# Altium integrated library Actel IGLOOe.IntLib: 72 symbols (part 3 of 24)
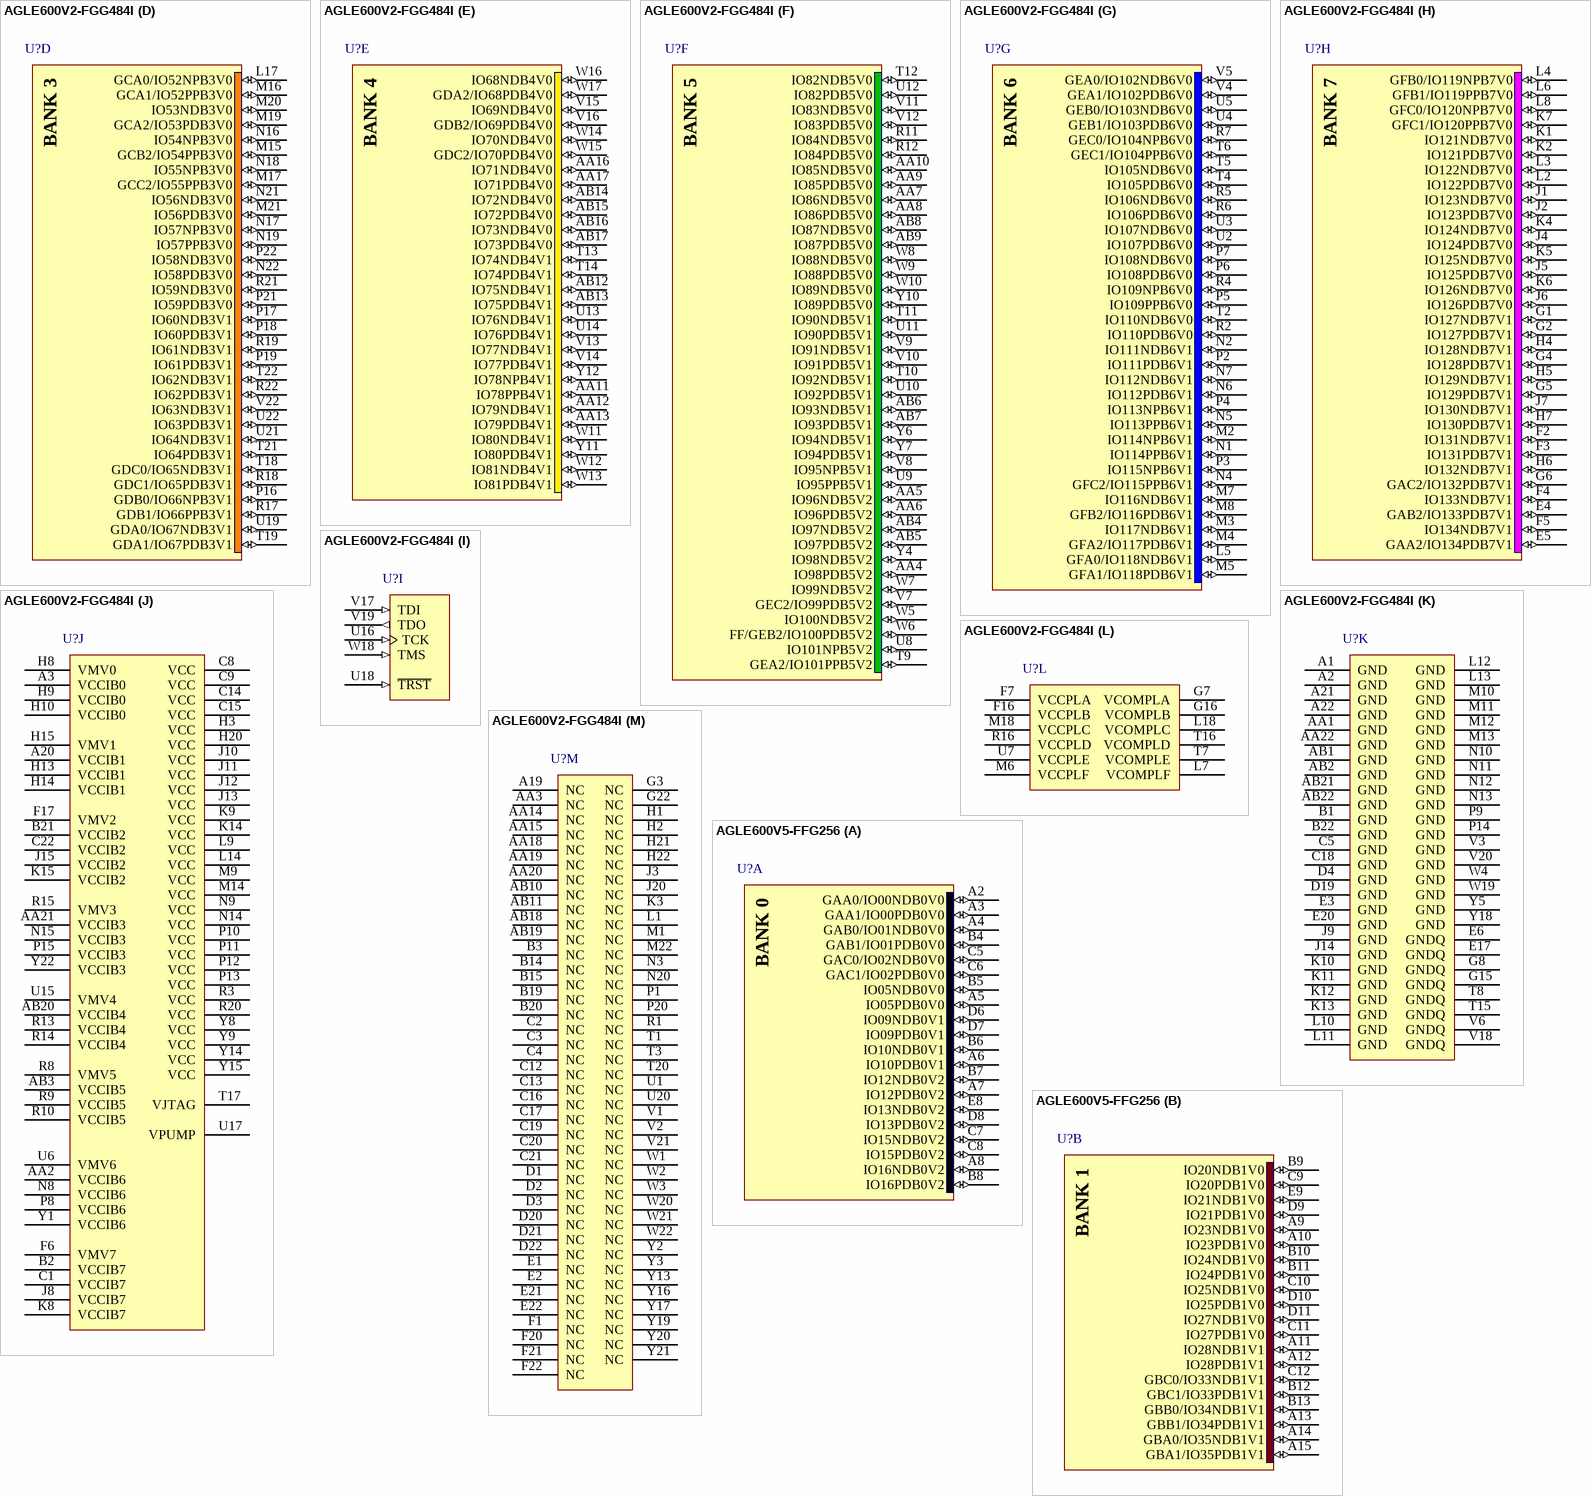
[diagram p109: symbols AGLE600V2-FGG484I to AGLE600V5-FFG256]

## AGLE600V2-FGG484I
designator U?
IGLOOe 1.2/1.5V Flash FPGA with Flash*Freeze, 270 User IOs, 600K System Gates, 108Kbits RAM, 1Kbit Flash ROM, 484-Pin FBGA, Industrial Grade; DatasheetVersion: v2.0, Nov-2009; PackageVersion: rev39, Aug-2010; PackageReference: FG484; PackageDescription: 484-Ball Fine Pitch Plastic Ball Grid Array (FG484) - Fully Populated; Code_JEDEC: MS-034-AAJ-1; Code_IPC: BGA100P22X22-484; ComponentLink1Description: Manufacturer URL; ComponentLink1URL: http://www.actel.com/; ComponentLink2Description: IGLOOe Datasheet; ComponentLink2URL: http://www.actel.com/documents/IGLOOe_DS.pdf; ComponentLink3Description: Package Mechanical Drawings; ComponentLink3URL: http://www.actel.com/documents/PckgMechDrwngs.pdf; ComponentLink4Description: IGLOOe Documents; ComponentLink4URL: http://www.actel.com/products/igloo/docs.aspx
footprint FG484 (BGA, 484-Leads, Body 23x23mm, Pitch 1mm)
part A pins: A4 IO06NDB0V1 (io), A5 IO06PDB0V1 (io), A6 IO08NDB0V1 (io), A7 IO08PDB0V1 (io), A8 IO11PDB0V1 (io), A9 IO17PDB0V2 (io), A10 IO18NDB0V2 (io), A11 IO18PDB0V2 (io), B4 IO03NDB0V0 (io), B5 IO03PDB0V0 (io), B6 IO07NDB0V1 (io), B7 IO07PDB0V1 (io), B8 IO11NDB0V1 (io), B9 IO17NDB0V2 (io), B10 IO14PDB0V2 (io), B11 IO19PDB0V2 (io), C6 IO04NDB0V0 (io), C7 IO04PDB0V0 (io), C10 IO14NDB0V2 (io), C11 IO19NDB0V2 (io), D5 GAA0/IO00NDB0V0 (io), D6 GAA1/IO00PDB0V0 (io), D7 GAB0/IO01NDB0V0 (io), D8 IO05PDB0V0 (io), D9 IO10PDB0V1 (io), D10 IO12PDB0V2 (io), D11 IO16NDB0V2 (io), E7 GAB1/IO01PDB0V0 (io), E8 IO05NDB0V0 (io), E9 IO10NDB0V1 (io), E10 IO12NDB0V2 (io), E11 IO16PDB0V2 (io), F8 GAC0/IO02NDB0V0 (io), F9 GAC1/IO02PDB0V0 (io), F10 IO15NDB0V2 (io), F11 IO15PDB0V2 (io), G9 IO09NDB0V1 (io), G10 IO09PDB0V1 (io), G11 IO13PDB0V2 (io), H11 IO13NDB0V2 (io)
part B pins: A12 IO22PDB1V0 (io), A13 IO26PDB1V0 (io), A14 IO29NDB1V1 (io), A15 IO29PDB1V1 (io), A16 IO31NDB1V1 (io), A17 IO31PDB1V1 (io), A18 IO32NDB1V1 (io), B12 IO22NDB1V0 (io), B13 IO26NDB1V0 (io), B16 IO30NDB1V1 (io), B17 IO30PDB1V1 (io), B18 IO32PDB1V1 (io), D12 IO23NDB1V0 (io), D13 IO23PDB1V0 (io), D14 IO28NDB1V1 (io), D15 IO28PDB1V1 (io), D16 GBB1/IO34PDB1V1 (io), D17 GBA0/IO35NDB1V1 (io), D18 GBA1/IO35PDB1V1 (io), E12 IO20NDB1V0 (io), E13 IO24NDB1V0 (io), E14 IO24PDB1V0 (io), E15 GBC1/IO33PDB1V1 (io), E16 GBB0/IO34NDB1V1 (io), F12 IO20PDB1V0 (io), F13 IO25NDB1V0 (io), F14 IO27PDB1V0 (io), F15 GBC0/IO33NDB1V1 (io), G12 IO21PDB1V0 (io), G13 IO25PDB1V0 (io), G14 IO27NDB1V0 (io), H12 IO21NDB1V0 (io)
part C pins: E18 GBA2/IO36PDB2V0 (io), E19 IO42NDB2V0 (io), F18 IO36NDB2V0 (io), F19 IO42PDB2V0 (io), G17 GBB2/IO37PDB2V0 (io), G18 IO39PDB2V0 (io), G19 IO39NDB2V0 (io), G20 IO43PDB2V0 (io), G21 IO43NDB2V0 (io), H16 GBC2/IO38PDB2V0 (io), H17 IO37NDB2V0 (io), H18 IO41NDB2V0 (io), H19 IO41PDB2V0 (io), J16 IO38NDB2V0 (io), J17 IO40NDB2V0 (io), J18 IO40PDB2V0 (io), J19 IO45PPB2V1 (io), J21 IO48PDB2V1 (io), J22 IO46PDB2V1 (io), K16 GCC1/IO50PPB2V1 (io), K17 IO44NDB2V1 (io), K18 IO44PDB2V1 (io), K19 IO49NPB2V1 (io), K20 IO45NPB2V1 (io), K21 IO48NDB2V1 (io), K22 IO46NDB2V1 (io), L15 GCC0/IO50NPB2V1 (io), L16 GCB1/IO51PPB2V1 (io), L19 GCB0/IO51NPB2V1 (io), L20 IO49PPB2V1 (io), L21 IO47NDB2V1 (io), L22 IO47PDB2V1 (io)
part D pins: L17 GCA0/IO52NPB3V0 (io), M15 GCB2/IO54PPB3V0 (io), M16 GCA1/IO52PPB3V0 (io), M17 GCC2/IO55PPB3V0 (io), M19 GCA2/IO53PDB3V0 (io), M20 IO53NDB3V0 (io), M21 IO56PDB3V0 (io), N16 IO54NPB3V0 (io), N17 IO57NPB3V0 (io), N18 IO55NPB3V0 (io), N19 IO57PPB3V0 (io), N21 IO56NDB3V0 (io), N22 IO58PDB3V0 (io), P16 GDB0/IO66NPB3V1 (io), P17 IO60NDB3V1 (io), P18 IO60PDB3V1 (io), P19 IO61PDB3V1 (io), P21 IO59PDB3V0 (io), P22 IO58NDB3V0 (io), R17 GDB1/IO66PPB3V1 (io), R18 GDC1/IO65PDB3V1 (io), R19 IO61NDB3V1 (io), R21 IO59NDB3V0 (io), R22 IO62PDB3V1 (io), T18 GDC0/IO65NDB3V1 (io), T19 GDA1/IO67PDB3V1 (io), T21 IO64PDB3V1 (io), T22 IO62NDB3V1 (io), U19 GDA0/IO67NDB3V1 (io), U21 IO64NDB3V1 (io), U22 IO63PDB3V1 (io), V22 IO63NDB3V1 (io)
part E pins: AA11 IO78PPB4V1 (io), AA12 IO79NDB4V1 (io), AA13 IO79PDB4V1 (io), AA16 IO71NDB4V0 (io), AA17 IO71PDB4V0 (io), AB12 IO75NDB4V1 (io), AB13 IO75PDB4V1 (io), AB14 IO72NDB4V0 (io), AB15 IO72PDB4V0 (io), AB16 IO73NDB4V0 (io), AB17 IO73PDB4V0 (io), T13 IO74NDB4V1 (io), T14 IO74PDB4V1 (io), U13 IO76NDB4V1 (io), U14 IO76PDB4V1 (io), V13 IO77NDB4V1 (io), V14 IO77PDB4V1 (io), V15 IO69NDB4V0 (io), V16 GDB2/IO69PDB4V0 (io), W11 IO80NDB4V1 (io), W12 IO81NDB4V1 (io), W13 IO81PDB4V1 (io), W14 IO70NDB4V0 (io), W15 GDC2/IO70PDB4V0 (io), W16 IO68NDB4V0 (io), W17 GDA2/IO68PDB4V0 (io), Y11 IO80PDB4V1 (io), Y12 IO78NPB4V1 (io)
part F pins: AA4 IO98PDB5V2 (io), AA5 IO96NDB5V2 (io), AA6 IO96PDB5V2 (io), AA7 IO86NDB5V0 (io), AA8 IO86PDB5V0 (io), AA9 IO85PDB5V0 (io), AA10 IO85NDB5V0 (io), AB4 IO97NDB5V2 (io), AB5 IO97PDB5V2 (io), AB6 IO93NDB5V1 (io), AB7 IO93PDB5V1 (io), AB8 IO87NDB5V0 (io), AB9 IO87PDB5V0 (io), R11 IO84NDB5V0 (io), R12 IO84PDB5V0 (io), T9 GEA2/IO101PPB5V2 (io), T10 IO92NDB5V1 (io), T11 IO90NDB5V1 (io), T12 IO82NDB5V0 (io), U8 IO101NPB5V2 (io), U9 IO95PPB5V1 (io), U10 IO92PDB5V1 (io), U11 IO90PDB5V1 (io), U12 IO82PDB5V0 (io), V7 GEC2/IO99PDB5V2 (io), V8 IO95NPB5V1 (io), V9 IO91NDB5V1 (io), V10 IO91PDB5V1 (io), V11 IO83NDB5V0 (io), V12 IO83PDB5V0 (io), W5 IO100NDB5V2 (io), W6 FF/GEB2/IO100PDB5V2 (io), W7 IO99NDB5V2 (io), W8 IO88NDB5V0 (io), W9 IO88PDB5V0 (io), W10 IO89NDB5V0 (io), Y4 IO98NDB5V2 (io), Y6 IO94NDB5V1 (io), Y7 IO94PDB5V1 (io), Y10 IO89PDB5V0 (io)
part G pins: L5 GFA0/IO118NDB6V1 (io), M2 IO114NPB6V1 (io), M3 IO117NDB6V1 (io), M4 GFA2/IO117PDB6V1 (io), M5 GFA1/IO118PDB6V1 (io), M7 IO116NDB6V1 (io), M8 GFB2/IO116PDB6V1 (io), N1 IO114PPB6V1 (io), N2 IO111NDB6V1 (io), N4 GFC2/IO115PPB6V1 (io), N5 IO113PPB6V1 (io), N6 IO112PDB6V1 (io), N7 IO112NDB6V1 (io), P2 IO111PDB6V1 (io), P3 IO115NPB6V1 (io), P4 IO113NPB6V1 (io), P5 IO109PPB6V0 (io), P6 IO108PDB6V0 (io), P7 IO108NDB6V0 (io), R2 IO110PDB6V0 (io), R4 IO109NPB6V0 (io), R5 IO106NDB6V0 (io), R6 IO106PDB6V0 (io), R7 GEC0/IO104NPB6V0 (io), T2 IO110NDB6V0 (io), T4 IO105PDB6V0 (io), T5 IO105NDB6V0 (io), T6 GEC1/IO104PPB6V0 (io), U2 IO107PDB6V0 (io), U3 IO107NDB6V0 (io), U4 GEB1/IO103PDB6V0 (io), U5 GEB0/IO103NDB6V0 (io), V4 GEA1/IO102PDB6V0 (io), V5 GEA0/IO102NDB6V0 (io)
part H pins: E4 GAB2/IO133PDB7V1 (io), E5 GAA2/IO134PDB7V1 (io), F2 IO131NDB7V1 (io), F3 IO131PDB7V1 (io), F4 IO133NDB7V1 (io), F5 IO134NDB7V1 (io), G1 IO127NDB7V1 (io), G2 IO127PDB7V1 (io), G4 IO128PDB7V1 (io), G5 IO129PDB7V1 (io), G6 GAC2/IO132PDB7V1 (io), H4 IO128NDB7V1 (io), H5 IO129NDB7V1 (io), H6 IO132NDB7V1 (io), H7 IO130PDB7V1 (io), J1 IO123NDB7V0 (io), J2 IO123PDB7V0 (io), J4 IO124PDB7V0 (io), J5 IO125PDB7V0 (io), J6 IO126PDB7V0 (io), J7 IO130NDB7V1 (io), K1 IO121NDB7V0 (io), K2 IO121PDB7V0 (io), K4 IO124NDB7V0 (io), K5 IO125NDB7V0 (io), K6 IO126NDB7V0 (io), K7 GFC1/IO120PPB7V0 (io), L2 IO122PDB7V0 (io), L3 IO122NDB7V0 (io), L4 GFB0/IO119NPB7V0 (io), L6 GFB1/IO119PPB7V0 (io), L8 GFC0/IO120NPB7V0 (io)
part I pins: U16 TCK (in), U18 ~{TRST} (in), V17 TDI (in), V19 TDO (out), W18 TMS (in)
part J pins: A3 VCCIB0 (power), A20 VCCIB1 (power), AA2 VCCIB6 (power), AA21 VCCIB3 (power), AB3 VCCIB5 (power), AB20 VCCIB4 (power), B2 VCCIB7 (power), B21 VCCIB2 (power), C1 VCCIB7 (power), C8 VCC (power), C9 VCC (power), C14 VCC (power), C15 VCC (power), C22 VCCIB2 (power), F6 VMV7 (power), F17 VMV2 (power), H3 VCC (power), H8 VMV0 (power), H9 VCCIB0 (power), H10 VCCIB0 (power), H13 VCCIB1 (power), H14 VCCIB1 (power), H15 VMV1 (power), H20 VCC (power), J8 VCCIB7 (power), J10 VCC (power), J11 VCC (power), J12 VCC (power), J13 VCC (power), J15 VCCIB2 (power), K8 VCCIB7 (power), K9 VCC (power), K14 VCC (power), K15 VCCIB2 (power), L9 VCC (power), L14 VCC (power), M9 VCC (power), M14 VCC (power), N8 VCCIB6 (power), N9 VCC (power), N14 VCC (power), N15 VCCIB3 (power), P8 VCCIB6 (power), P10 VCC (power), P11 VCC (power), P12 VCC (power), P13 VCC (power), P15 VCCIB3 (power), R3 VCC (power), R8 VMV5 (power), R9 VCCIB5 (power), R10 VCCIB5 (power), R13 VCCIB4 (power), R14 VCCIB4 (power), R15 VMV3 (power), R20 VCC (power), T17 VJTAG (power), U6 VMV6 (power), U15 VMV4 (power), U17 VPUMP (power), Y1 VCCIB6 (power), Y8 VCC (power), Y9 VCC (power), Y14 VCC (power), Y15 VCC (power), Y22 VCCIB3 (power)
part K pins: A1 GND (power), A2 GND (power), A21 GND (power), A22 GND (power), AA1 GND (power), AA22 GND (power), AB1 GND (power), AB2 GND (power), AB21 GND (power), AB22 GND (power), B1 GND (power), B22 GND (power), C5 GND (power), C18 GND (power), D4 GND (power), D19 GND (power), E3 GND (power), E6 GNDQ (power), E17 GNDQ (power), E20 GND (power), G8 GNDQ (power), G15 GNDQ (power), J9 GND (power), J14 GND (power), K10 GND (power), K11 GND (power), K12 GND (power), K13 GND (power), L10 GND (power), L11 GND (power), L12 GND (power), L13 GND (power), M10 GND (power), M11 GND (power), M12 GND (power), M13 GND (power), N10 GND (power), N11 GND (power), N12 GND (power), N13 GND (power), P9 GND (power), P14 GND (power), T8 GNDQ (power), T15 GNDQ (power), V3 GND (power), V6 GNDQ (power), V18 GNDQ (power), V20 GND (power), W4 GND (power), W19 GND (power), Y5 GND (power), Y18 GND (power)
part L pins: F7 VCCPLA (power), F16 VCCPLB (power), G7 VCOMPLA (power), G16 VCOMPLB (power), L7 VCOMPLF (power), L18 VCOMPLC (power), M6 VCCPLF (power), M18 VCCPLC (power), R16 VCCPLD (power), T7 VCOMPLE (power), T16 VCOMPLD (power), U7 VCCPLE (power)
part M pins: A19 NC, AA3 NC, AA14 NC, AA15 NC, AA18 NC, AA19 NC, AA20 NC, AB10 NC, AB11 NC, AB18 NC, AB19 NC, B3 NC, B14 NC, B15 NC, B19 NC, B20 NC, C2 NC, C3 NC, C4 NC, C12 NC, C13 NC, C16 NC, C17 NC, C19 NC, C20 NC, C21 NC, D1 NC, D2 NC, D3 NC, D20 NC, D21 NC, D22 NC, E1 NC, E2 NC, E21 NC, E22 NC, F1 NC, F20 NC, F21 NC, F22 NC, G3 NC, G22 NC, H1 NC, H2 NC, H21 NC, H22 NC, J3 NC, J20 NC, K3 NC, L1 NC, M1 NC, M22 NC, N3 NC, N20 NC, P1 NC, P20 NC, R1 NC, T1 NC, T3 NC, T20 NC, U1 NC, U20 NC, V1 NC, V2 NC, V21 NC, W1 NC, W2 NC, W3 NC, W20 NC, W21 NC, W22 NC, Y2 NC, Y3 NC, Y13 NC, Y16 NC, Y17 NC, Y19 NC, Y20 NC, Y21 NC
part A text: BANK 0
part B text: BANK 1
part C text: BANK 2
part D text: BANK 3
part E text: BANK 4
part F text: BANK 5
part G text: BANK 6
part H text: BANK 7

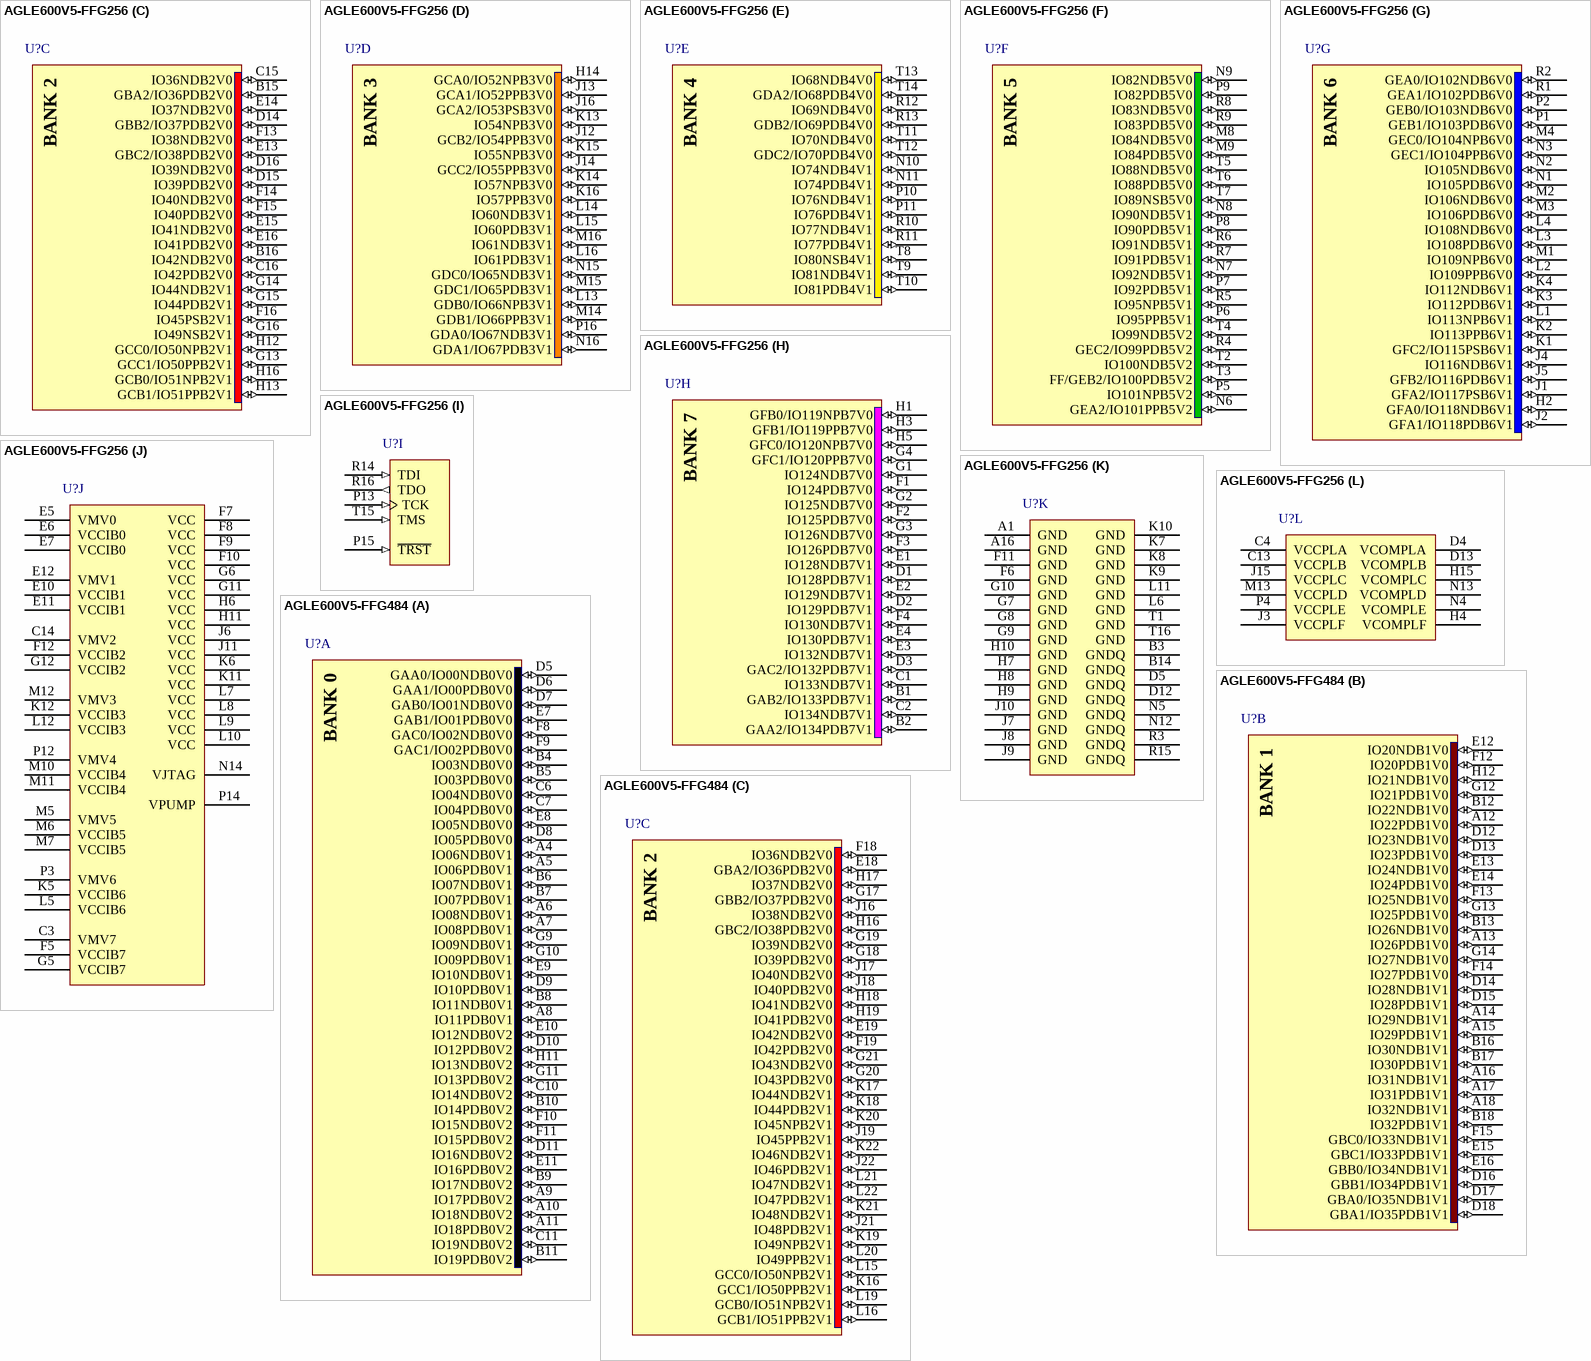
[diagram p12: symbols AGLE600V5-FFG256 to AGLE600V5-FFG484]

## AGLE600V5-FFG256
designator U?
IGLOOe 1.5V Flash FPGA with Flash*Freeze, 165 User IOs, 600K System Gates, 108Kbits RAM, 1Kbit Flash ROM, 256-Pin FBGA, F Speed Grade, Commercial Grade; DatasheetVersion: v1.0, Jan-2008; PackageVersion: rev39, Aug-2010; PackageReference: FG256; PackageDescription: 256-Ball Fine Pitch Plastic Ball Grid Array 1.00 mm Pitch (FG256); Code_JEDEC: MO-192-DAF-1; ComponentLink1Description: Manufacturer URL; ComponentLink1URL: http://www.actel.com/; ComponentLink2Description: IGLOOe Datasheet; ComponentLink2URL: http://www.actel.com/documents/IGLOOe_DS.pdf; ComponentLink3Description: Package Mechanical Drawings; ComponentLink3URL: http://www.actel.com/documents/PckgMechDrwngs.pdf; ComponentLink4Description: IGLOOe Documents; ComponentLink4URL: http://www.actel.com/products/igloo/docs.aspx
footprint FG256 (BGA, 256-Leads, Body 17x17mm, Pitch 1mm)
part A pins: A2 GAA0/IO00NDB0V0 (io), A3 GAA1/IO00PDB0V0 (io), A4 GAB0/IO01NDB0V0 (io), A5 IO05PDB0V0 (io), A6 IO10PDB0V1 (io), A7 IO12PDB0V2 (io), A8 IO16NDB0V2 (io), B4 GAB1/IO01PDB0V0 (io), B5 IO05NDB0V0 (io), B6 IO10NDB0V1 (io), B7 IO12NDB0V2 (io), B8 IO16PDB0V2 (io), C5 GAC0/IO02NDB0V0 (io), C6 GAC1/IO02PDB0V0 (io), C7 IO15NDB0V2 (io), C8 IO15PDB0V2 (io), D6 IO09NDB0V1 (io), D7 IO09PDB0V1 (io), D8 IO13PDB0V2 (io), E8 IO13NDB0V2 (io)
part B pins: A9 IO23NDB1V0 (io), A10 IO23PDB1V0 (io), A11 IO28NDB1V1 (io), A12 IO28PDB1V1 (io), A13 GBB1/IO34PDB1V1 (io), A14 GBA0/IO35NDB1V1 (io), A15 GBA1/IO35PDB1V1 (io), B9 IO20NDB1V0 (io), B10 IO24NDB1V0 (io), B11 IO24PDB1V0 (io), B12 GBC1/IO33PDB1V1 (io), B13 GBB0/IO34NDB1V1 (io), C9 IO20PDB1V0 (io), C10 IO25NDB1V0 (io), C11 IO27PDB1V0 (io), C12 GBC0/IO33NDB1V1 (io), D9 IO21PDB1V0 (io), D10 IO25PDB1V0 (io), D11 IO27NDB1V0 (io), E9 IO21NDB1V0 (io)
part C pins: B15 GBA2/IO36PDB2V0 (io), B16 IO42NDB2V0 (io), C15 IO36NDB2V0 (io), C16 IO42PDB2V0 (io), D14 GBB2/IO37PDB2V0 (io), D15 IO39PDB2V0 (io), D16 IO39NDB2V0 (io), E13 GBC2/IO38PDB2V0 (io), E14 IO37NDB2V0 (io), E15 IO41NDB2V0 (io), E16 IO41PDB2V0 (io), F13 IO38NDB2V0 (io), F14 IO40NDB2V0 (io), F15 IO40PDB2V0 (io), F16 IO45PSB2V1 (io), G13 GCC1/IO50PPB2V1 (io), G14 IO44NDB2V1 (io), G15 IO44PDB2V1 (io), G16 IO49NSB2V1 (io), H12 GCC0/IO50NPB2V1 (io), H13 GCB1/IO51PPB2V1 (io), H16 GCB0/IO51NPB2V1 (io)
part D pins: H14 GCA0/IO52NPB3V0 (io), J12 GCB2/IO54PPB3V0 (io), J13 GCA1/IO52PPB3V0 (io), J14 GCC2/IO55PPB3V0 (io), J16 GCA2/IO53PSB3V0 (io), K13 IO54NPB3V0 (io), K14 IO57NPB3V0 (io), K15 IO55NPB3V0 (io), K16 IO57PPB3V0 (io), L13 GDB0/IO66NPB3V1 (io), L14 IO60NDB3V1 (io), L15 IO60PDB3V1 (io), L16 IO61PDB3V1 (io), M14 GDB1/IO66PPB3V1 (io), M15 GDC1/IO65PDB3V1 (io), M16 IO61NDB3V1 (io), N15 GDC0/IO65NDB3V1 (io), N16 GDA1/IO67PDB3V1 (io), P16 GDA0/IO67NDB3V1 (io)
part E pins: N10 IO74NDB4V1 (io), N11 IO74PDB4V1 (io), P10 IO76NDB4V1 (io), P11 IO76PDB4V1 (io), R10 IO77NDB4V1 (io), R11 IO77PDB4V1 (io), R12 IO69NDB4V0 (io), R13 GDB2/IO69PDB4V0 (io), T8 IO80NSB4V1 (io), T9 IO81NDB4V1 (io), T10 IO81PDB4V1 (io), T11 IO70NDB4V0 (io), T12 GDC2/IO70PDB4V0 (io), T13 IO68NDB4V0 (io), T14 GDA2/IO68PDB4V0 (io)
part F pins: M8 IO84NDB5V0 (io), M9 IO84PDB5V0 (io), N6 GEA2/IO101PPB5V2 (io), N7 IO92NDB5V1 (io), N8 IO90NDB5V1 (io), N9 IO82NDB5V0 (io), P5 IO101NPB5V2 (io), P6 IO95PPB5V1 (io), P7 IO92PDB5V1 (io), P8 IO90PDB5V1 (io), P9 IO82PDB5V0 (io), R4 GEC2/IO99PDB5V2 (io), R5 IO95NPB5V1 (io), R6 IO91NDB5V1 (io), R7 IO91PDB5V1 (io), R8 IO83NDB5V0 (io), R9 IO83PDB5V0 (io), T2 IO100NDB5V2 (io), T3 FF/GEB2/IO100PDB5V2 (io), T4 IO99NDB5V2 (io), T5 IO88NDB5V0 (io), T6 IO88PDB5V0 (io), T7 IO89NSB5V0 (io)
part G pins: H2 GFA0/IO118NDB6V1 (io), J1 GFA2/IO117PSB6V1 (io), J2 GFA1/IO118PDB6V1 (io), J4 IO116NDB6V1 (io), J5 GFB2/IO116PDB6V1 (io), K1 GFC2/IO115PSB6V1 (io), K2 IO113PPB6V1 (io), K3 IO112PDB6V1 (io), K4 IO112NDB6V1 (io), L1 IO113NPB6V1 (io), L2 IO109PPB6V0 (io), L3 IO108PDB6V0 (io), L4 IO108NDB6V0 (io), M1 IO109NPB6V0 (io), M2 IO106NDB6V0 (io), M3 IO106PDB6V0 (io), M4 GEC0/IO104NPB6V0 (io), N1 IO105PDB6V0 (io), N2 IO105NDB6V0 (io), N3 GEC1/IO104PPB6V0 (io), P1 GEB1/IO103PDB6V0 (io), P2 GEB0/IO103NDB6V0 (io), R1 GEA1/IO102PDB6V0 (io), R2 GEA0/IO102NDB6V0 (io)
part H pins: B1 GAB2/IO133PDB7V1 (io), B2 GAA2/IO134PDB7V1 (io), C1 IO133NDB7V1 (io), C2 IO134NDB7V1 (io), D1 IO128PDB7V1 (io), D2 IO129PDB7V1 (io), D3 GAC2/IO132PDB7V1 (io), E1 IO128NDB7V1 (io), E2 IO129NDB7V1 (io), E3 IO132NDB7V1 (io), E4 IO130PDB7V1 (io), F1 IO124PDB7V0 (io), F2 IO125PDB7V0 (io), F3 IO126PDB7V0 (io), F4 IO130NDB7V1 (io), G1 IO124NDB7V0 (io), G2 IO125NDB7V0 (io), G3 IO126NDB7V0 (io), G4 GFC1/IO120PPB7V0 (io), H1 GFB0/IO119NPB7V0 (io), H3 GFB1/IO119PPB7V0 (io), H5 GFC0/IO120NPB7V0 (io)
part I pins: P13 TCK (in), P15 ~{TRST} (in), R14 TDI (in), R16 TDO (out), T15 TMS (in)
part J pins: C3 VMV7 (power), C14 VMV2 (power), E5 VMV0 (power), E6 VCCIB0 (power), E7 VCCIB0 (power), E10 VCCIB1 (power), E11 VCCIB1 (power), E12 VMV1 (power), F5 VCCIB7 (power), F7 VCC (power), F8 VCC (power), F9 VCC (power), F10 VCC (power), F12 VCCIB2 (power), G5 VCCIB7 (power), G6 VCC (power), G11 VCC (power), G12 VCCIB2 (power), H6 VCC (power), H11 VCC (power), J6 VCC (power), J11 VCC (power), K5 VCCIB6 (power), K6 VCC (power), K11 VCC (power), K12 VCCIB3 (power), L5 VCCIB6 (power), L7 VCC (power), L8 VCC (power), L9 VCC (power), L10 VCC (power), L12 VCCIB3 (power), M5 VMV5 (power), M6 VCCIB5 (power), M7 VCCIB5 (power), M10 VCCIB4 (power), M11 VCCIB4 (power), M12 VMV3 (power), N14 VJTAG (power), P3 VMV6 (power), P12 VMV4 (power), P14 VPUMP (power)
part K pins: A1 GND (power), A16 GND (power), B3 GNDQ (power), B14 GNDQ (power), D5 GNDQ (power), D12 GNDQ (power), F6 GND (power), F11 GND (power), G7 GND (power), G8 GND (power), G9 GND (power), G10 GND (power), H7 GND (power), H8 GND (power), H9 GND (power), H10 GND (power), J7 GND (power), J8 GND (power), J9 GND (power), J10 GND (power), K7 GND (power), K8 GND (power), K9 GND (power), K10 GND (power), L6 GND (power), L11 GND (power), N5 GNDQ (power), N12 GNDQ (power), R3 GNDQ (power), R15 GNDQ (power), T1 GND (power), T16 GND (power)
part L pins: C4 VCCPLA (power), C13 VCCPLB (power), D4 VCOMPLA (power), D13 VCOMPLB (power), H4 VCOMPLF (power), H15 VCOMPLC (power), J3 VCCPLF (power), J15 VCCPLC (power), M13 VCCPLD (power), N4 VCOMPLE (power), N13 VCOMPLD (power), P4 VCCPLE (power)
part A text: BANK 0
part B text: BANK 1
part C text: BANK 2
part D text: BANK 3
part E text: BANK 4
part F text: BANK 5
part G text: BANK 6
part H text: BANK 7

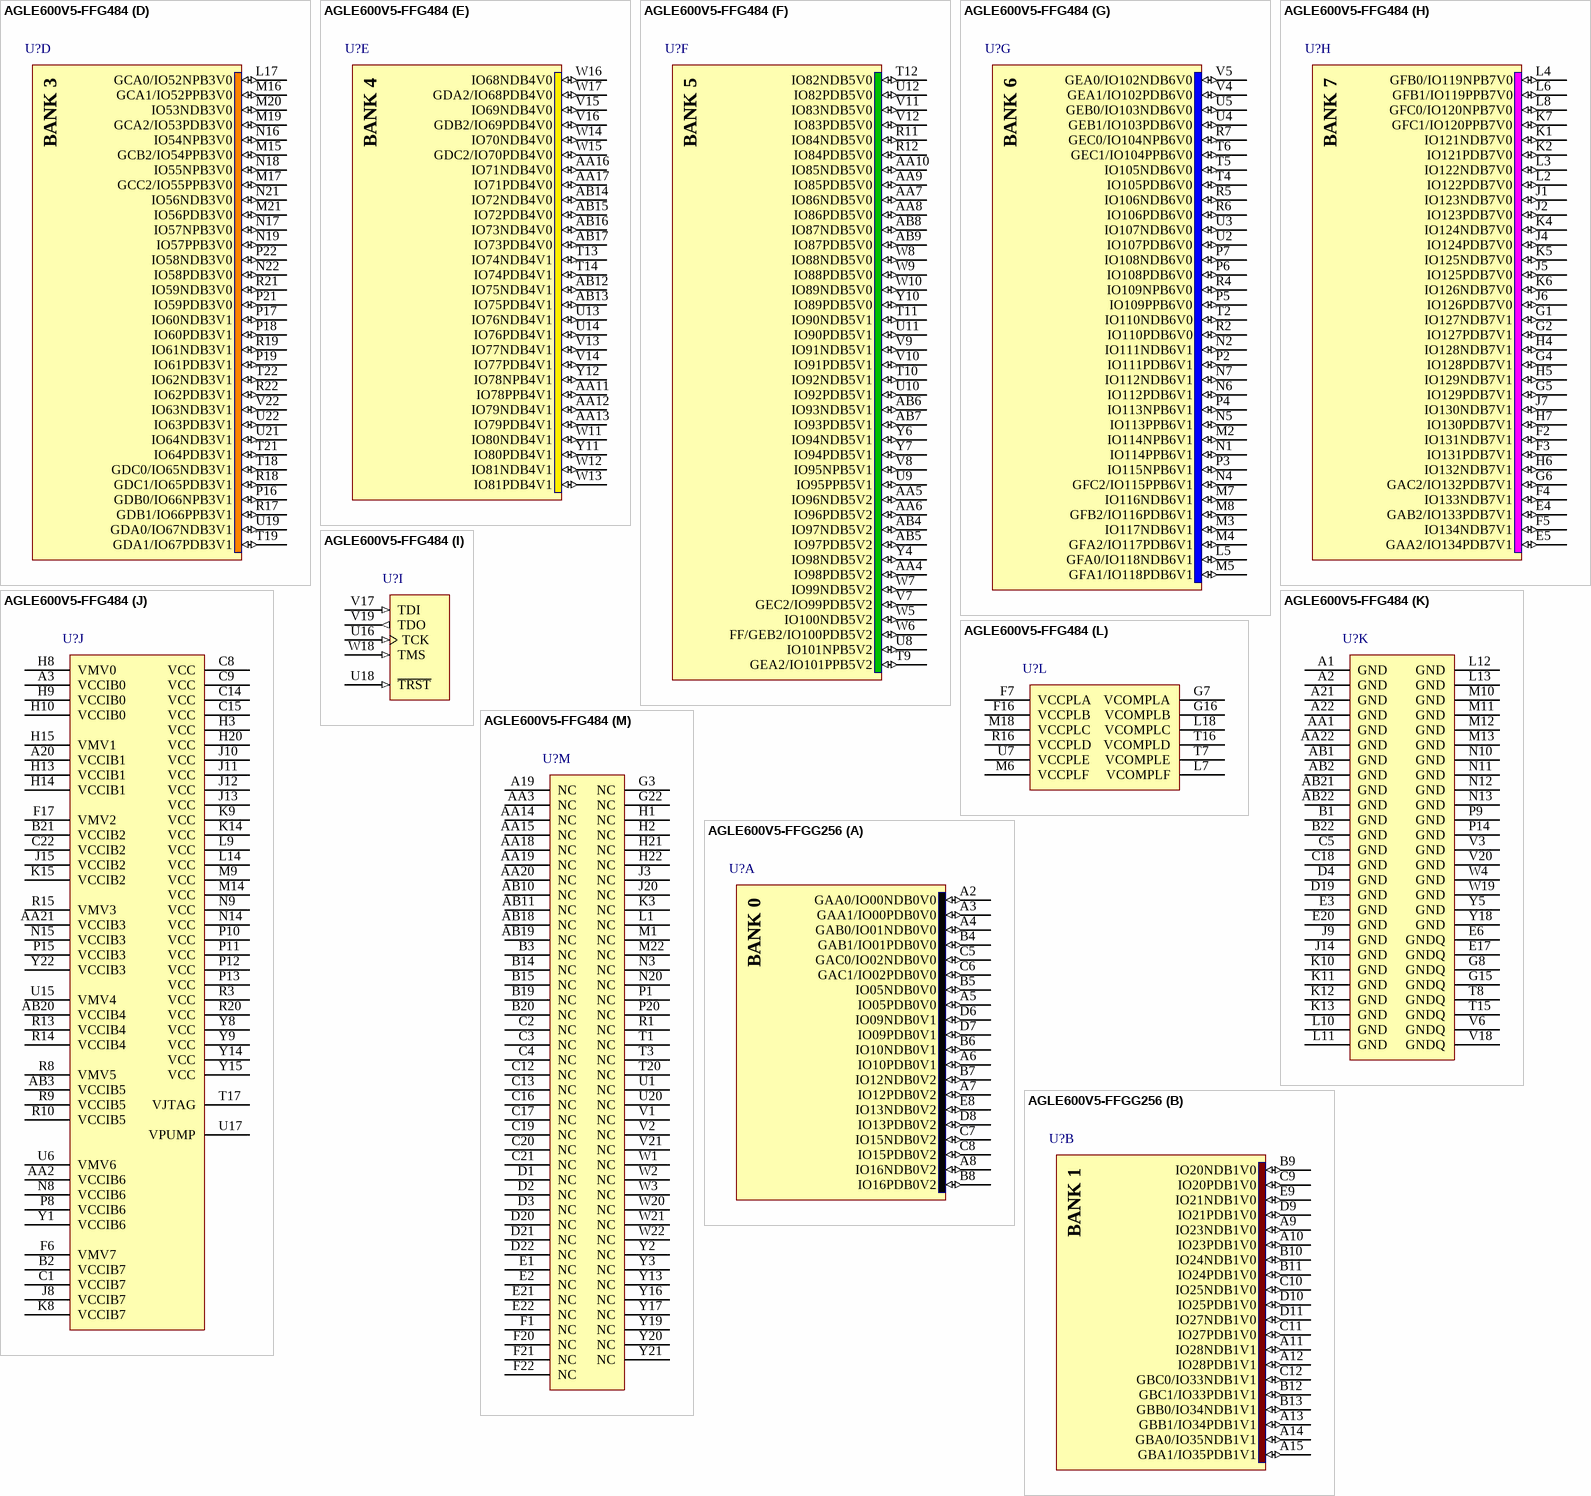
[diagram p13: symbols AGLE600V5-FFG484 to AGLE600V5-FFGG256]

## AGLE600V5-FFG484
designator U?
IGLOOe 1.5V Flash FPGA with Flash*Freeze, 270 User IOs, 600K System Gates, 108Kbits RAM, 1Kbit Flash ROM, 484-Pin FBGA, F Speed Grade, Commercial Grade; DatasheetVersion: v1.0, Jan-2008; PackageVersion: rev39, Aug-2010; PackageReference: FG484; PackageDescription: 484-Ball Fine Pitch Plastic Ball Grid Array (FG484) - Fully Populated; Code_JEDEC: MS-034-AAJ-1; Code_IPC: BGA100P22X22-484; ComponentLink1Description: Manufacturer URL; ComponentLink1URL: http://www.actel.com/; ComponentLink2Description: IGLOOe Datasheet; ComponentLink2URL: http://www.actel.com/documents/IGLOOe_DS.pdf; ComponentLink3Description: Package Mechanical Drawings; ComponentLink3URL: http://www.actel.com/documents/PckgMechDrwngs.pdf; ComponentLink4Description: IGLOOe Documents; ComponentLink4URL: http://www.actel.com/products/igloo/docs.aspx
footprint FG484 (BGA, 484-Leads, Body 23x23mm, Pitch 1mm)
part A pins: A4 IO06NDB0V1 (io), A5 IO06PDB0V1 (io), A6 IO08NDB0V1 (io), A7 IO08PDB0V1 (io), A8 IO11PDB0V1 (io), A9 IO17PDB0V2 (io), A10 IO18NDB0V2 (io), A11 IO18PDB0V2 (io), B4 IO03NDB0V0 (io), B5 IO03PDB0V0 (io), B6 IO07NDB0V1 (io), B7 IO07PDB0V1 (io), B8 IO11NDB0V1 (io), B9 IO17NDB0V2 (io), B10 IO14PDB0V2 (io), B11 IO19PDB0V2 (io), C6 IO04NDB0V0 (io), C7 IO04PDB0V0 (io), C10 IO14NDB0V2 (io), C11 IO19NDB0V2 (io), D5 GAA0/IO00NDB0V0 (io), D6 GAA1/IO00PDB0V0 (io), D7 GAB0/IO01NDB0V0 (io), D8 IO05PDB0V0 (io), D9 IO10PDB0V1 (io), D10 IO12PDB0V2 (io), D11 IO16NDB0V2 (io), E7 GAB1/IO01PDB0V0 (io), E8 IO05NDB0V0 (io), E9 IO10NDB0V1 (io), E10 IO12NDB0V2 (io), E11 IO16PDB0V2 (io), F8 GAC0/IO02NDB0V0 (io), F9 GAC1/IO02PDB0V0 (io), F10 IO15NDB0V2 (io), F11 IO15PDB0V2 (io), G9 IO09NDB0V1 (io), G10 IO09PDB0V1 (io), G11 IO13PDB0V2 (io), H11 IO13NDB0V2 (io)
part B pins: A12 IO22PDB1V0 (io), A13 IO26PDB1V0 (io), A14 IO29NDB1V1 (io), A15 IO29PDB1V1 (io), A16 IO31NDB1V1 (io), A17 IO31PDB1V1 (io), A18 IO32NDB1V1 (io), B12 IO22NDB1V0 (io), B13 IO26NDB1V0 (io), B16 IO30NDB1V1 (io), B17 IO30PDB1V1 (io), B18 IO32PDB1V1 (io), D12 IO23NDB1V0 (io), D13 IO23PDB1V0 (io), D14 IO28NDB1V1 (io), D15 IO28PDB1V1 (io), D16 GBB1/IO34PDB1V1 (io), D17 GBA0/IO35NDB1V1 (io), D18 GBA1/IO35PDB1V1 (io), E12 IO20NDB1V0 (io), E13 IO24NDB1V0 (io), E14 IO24PDB1V0 (io), E15 GBC1/IO33PDB1V1 (io), E16 GBB0/IO34NDB1V1 (io), F12 IO20PDB1V0 (io), F13 IO25NDB1V0 (io), F14 IO27PDB1V0 (io), F15 GBC0/IO33NDB1V1 (io), G12 IO21PDB1V0 (io), G13 IO25PDB1V0 (io), G14 IO27NDB1V0 (io), H12 IO21NDB1V0 (io)
part C pins: E18 GBA2/IO36PDB2V0 (io), E19 IO42NDB2V0 (io), F18 IO36NDB2V0 (io), F19 IO42PDB2V0 (io), G17 GBB2/IO37PDB2V0 (io), G18 IO39PDB2V0 (io), G19 IO39NDB2V0 (io), G20 IO43PDB2V0 (io), G21 IO43NDB2V0 (io), H16 GBC2/IO38PDB2V0 (io), H17 IO37NDB2V0 (io), H18 IO41NDB2V0 (io), H19 IO41PDB2V0 (io), J16 IO38NDB2V0 (io), J17 IO40NDB2V0 (io), J18 IO40PDB2V0 (io), J19 IO45PPB2V1 (io), J21 IO48PDB2V1 (io), J22 IO46PDB2V1 (io), K16 GCC1/IO50PPB2V1 (io), K17 IO44NDB2V1 (io), K18 IO44PDB2V1 (io), K19 IO49NPB2V1 (io), K20 IO45NPB2V1 (io), K21 IO48NDB2V1 (io), K22 IO46NDB2V1 (io), L15 GCC0/IO50NPB2V1 (io), L16 GCB1/IO51PPB2V1 (io), L19 GCB0/IO51NPB2V1 (io), L20 IO49PPB2V1 (io), L21 IO47NDB2V1 (io), L22 IO47PDB2V1 (io)
part D pins: L17 GCA0/IO52NPB3V0 (io), M15 GCB2/IO54PPB3V0 (io), M16 GCA1/IO52PPB3V0 (io), M17 GCC2/IO55PPB3V0 (io), M19 GCA2/IO53PDB3V0 (io), M20 IO53NDB3V0 (io), M21 IO56PDB3V0 (io), N16 IO54NPB3V0 (io), N17 IO57NPB3V0 (io), N18 IO55NPB3V0 (io), N19 IO57PPB3V0 (io), N21 IO56NDB3V0 (io), N22 IO58PDB3V0 (io), P16 GDB0/IO66NPB3V1 (io), P17 IO60NDB3V1 (io), P18 IO60PDB3V1 (io), P19 IO61PDB3V1 (io), P21 IO59PDB3V0 (io), P22 IO58NDB3V0 (io), R17 GDB1/IO66PPB3V1 (io), R18 GDC1/IO65PDB3V1 (io), R19 IO61NDB3V1 (io), R21 IO59NDB3V0 (io), R22 IO62PDB3V1 (io), T18 GDC0/IO65NDB3V1 (io), T19 GDA1/IO67PDB3V1 (io), T21 IO64PDB3V1 (io), T22 IO62NDB3V1 (io), U19 GDA0/IO67NDB3V1 (io), U21 IO64NDB3V1 (io), U22 IO63PDB3V1 (io), V22 IO63NDB3V1 (io)
part E pins: AA11 IO78PPB4V1 (io), AA12 IO79NDB4V1 (io), AA13 IO79PDB4V1 (io), AA16 IO71NDB4V0 (io), AA17 IO71PDB4V0 (io), AB12 IO75NDB4V1 (io), AB13 IO75PDB4V1 (io), AB14 IO72NDB4V0 (io), AB15 IO72PDB4V0 (io), AB16 IO73NDB4V0 (io), AB17 IO73PDB4V0 (io), T13 IO74NDB4V1 (io), T14 IO74PDB4V1 (io), U13 IO76NDB4V1 (io), U14 IO76PDB4V1 (io), V13 IO77NDB4V1 (io), V14 IO77PDB4V1 (io), V15 IO69NDB4V0 (io), V16 GDB2/IO69PDB4V0 (io), W11 IO80NDB4V1 (io), W12 IO81NDB4V1 (io), W13 IO81PDB4V1 (io), W14 IO70NDB4V0 (io), W15 GDC2/IO70PDB4V0 (io), W16 IO68NDB4V0 (io), W17 GDA2/IO68PDB4V0 (io), Y11 IO80PDB4V1 (io), Y12 IO78NPB4V1 (io)
part F pins: AA4 IO98PDB5V2 (io), AA5 IO96NDB5V2 (io), AA6 IO96PDB5V2 (io), AA7 IO86NDB5V0 (io), AA8 IO86PDB5V0 (io), AA9 IO85PDB5V0 (io), AA10 IO85NDB5V0 (io), AB4 IO97NDB5V2 (io), AB5 IO97PDB5V2 (io), AB6 IO93NDB5V1 (io), AB7 IO93PDB5V1 (io), AB8 IO87NDB5V0 (io), AB9 IO87PDB5V0 (io), R11 IO84NDB5V0 (io), R12 IO84PDB5V0 (io), T9 GEA2/IO101PPB5V2 (io), T10 IO92NDB5V1 (io), T11 IO90NDB5V1 (io), T12 IO82NDB5V0 (io), U8 IO101NPB5V2 (io), U9 IO95PPB5V1 (io), U10 IO92PDB5V1 (io), U11 IO90PDB5V1 (io), U12 IO82PDB5V0 (io), V7 GEC2/IO99PDB5V2 (io), V8 IO95NPB5V1 (io), V9 IO91NDB5V1 (io), V10 IO91PDB5V1 (io), V11 IO83NDB5V0 (io), V12 IO83PDB5V0 (io), W5 IO100NDB5V2 (io), W6 FF/GEB2/IO100PDB5V2 (io), W7 IO99NDB5V2 (io), W8 IO88NDB5V0 (io), W9 IO88PDB5V0 (io), W10 IO89NDB5V0 (io), Y4 IO98NDB5V2 (io), Y6 IO94NDB5V1 (io), Y7 IO94PDB5V1 (io), Y10 IO89PDB5V0 (io)
part G pins: L5 GFA0/IO118NDB6V1 (io), M2 IO114NPB6V1 (io), M3 IO117NDB6V1 (io), M4 GFA2/IO117PDB6V1 (io), M5 GFA1/IO118PDB6V1 (io), M7 IO116NDB6V1 (io), M8 GFB2/IO116PDB6V1 (io), N1 IO114PPB6V1 (io), N2 IO111NDB6V1 (io), N4 GFC2/IO115PPB6V1 (io), N5 IO113PPB6V1 (io), N6 IO112PDB6V1 (io), N7 IO112NDB6V1 (io), P2 IO111PDB6V1 (io), P3 IO115NPB6V1 (io), P4 IO113NPB6V1 (io), P5 IO109PPB6V0 (io), P6 IO108PDB6V0 (io), P7 IO108NDB6V0 (io), R2 IO110PDB6V0 (io), R4 IO109NPB6V0 (io), R5 IO106NDB6V0 (io), R6 IO106PDB6V0 (io), R7 GEC0/IO104NPB6V0 (io), T2 IO110NDB6V0 (io), T4 IO105PDB6V0 (io), T5 IO105NDB6V0 (io), T6 GEC1/IO104PPB6V0 (io), U2 IO107PDB6V0 (io), U3 IO107NDB6V0 (io), U4 GEB1/IO103PDB6V0 (io), U5 GEB0/IO103NDB6V0 (io), V4 GEA1/IO102PDB6V0 (io), V5 GEA0/IO102NDB6V0 (io)
part H pins: E4 GAB2/IO133PDB7V1 (io), E5 GAA2/IO134PDB7V1 (io), F2 IO131NDB7V1 (io), F3 IO131PDB7V1 (io), F4 IO133NDB7V1 (io), F5 IO134NDB7V1 (io), G1 IO127NDB7V1 (io), G2 IO127PDB7V1 (io), G4 IO128PDB7V1 (io), G5 IO129PDB7V1 (io), G6 GAC2/IO132PDB7V1 (io), H4 IO128NDB7V1 (io), H5 IO129NDB7V1 (io), H6 IO132NDB7V1 (io), H7 IO130PDB7V1 (io), J1 IO123NDB7V0 (io), J2 IO123PDB7V0 (io), J4 IO124PDB7V0 (io), J5 IO125PDB7V0 (io), J6 IO126PDB7V0 (io), J7 IO130NDB7V1 (io), K1 IO121NDB7V0 (io), K2 IO121PDB7V0 (io), K4 IO124NDB7V0 (io), K5 IO125NDB7V0 (io), K6 IO126NDB7V0 (io), K7 GFC1/IO120PPB7V0 (io), L2 IO122PDB7V0 (io), L3 IO122NDB7V0 (io), L4 GFB0/IO119NPB7V0 (io), L6 GFB1/IO119PPB7V0 (io), L8 GFC0/IO120NPB7V0 (io)
part I pins: U16 TCK (in), U18 ~{TRST} (in), V17 TDI (in), V19 TDO (out), W18 TMS (in)
part J pins: A3 VCCIB0 (power), A20 VCCIB1 (power), AA2 VCCIB6 (power), AA21 VCCIB3 (power), AB3 VCCIB5 (power), AB20 VCCIB4 (power), B2 VCCIB7 (power), B21 VCCIB2 (power), C1 VCCIB7 (power), C8 VCC (power), C9 VCC (power), C14 VCC (power), C15 VCC (power), C22 VCCIB2 (power), F6 VMV7 (power), F17 VMV2 (power), H3 VCC (power), H8 VMV0 (power), H9 VCCIB0 (power), H10 VCCIB0 (power), H13 VCCIB1 (power), H14 VCCIB1 (power), H15 VMV1 (power), H20 VCC (power), J8 VCCIB7 (power), J10 VCC (power), J11 VCC (power), J12 VCC (power), J13 VCC (power), J15 VCCIB2 (power), K8 VCCIB7 (power), K9 VCC (power), K14 VCC (power), K15 VCCIB2 (power), L9 VCC (power), L14 VCC (power), M9 VCC (power), M14 VCC (power), N8 VCCIB6 (power), N9 VCC (power), N14 VCC (power), N15 VCCIB3 (power), P8 VCCIB6 (power), P10 VCC (power), P11 VCC (power), P12 VCC (power), P13 VCC (power), P15 VCCIB3 (power), R3 VCC (power), R8 VMV5 (power), R9 VCCIB5 (power), R10 VCCIB5 (power), R13 VCCIB4 (power), R14 VCCIB4 (power), R15 VMV3 (power), R20 VCC (power), T17 VJTAG (power), U6 VMV6 (power), U15 VMV4 (power), U17 VPUMP (power), Y1 VCCIB6 (power), Y8 VCC (power), Y9 VCC (power), Y14 VCC (power), Y15 VCC (power), Y22 VCCIB3 (power)
part K pins: A1 GND (power), A2 GND (power), A21 GND (power), A22 GND (power), AA1 GND (power), AA22 GND (power), AB1 GND (power), AB2 GND (power), AB21 GND (power), AB22 GND (power), B1 GND (power), B22 GND (power), C5 GND (power), C18 GND (power), D4 GND (power), D19 GND (power), E3 GND (power), E6 GNDQ (power), E17 GNDQ (power), E20 GND (power), G8 GNDQ (power), G15 GNDQ (power), J9 GND (power), J14 GND (power), K10 GND (power), K11 GND (power), K12 GND (power), K13 GND (power), L10 GND (power), L11 GND (power), L12 GND (power), L13 GND (power), M10 GND (power), M11 GND (power), M12 GND (power), M13 GND (power), N10 GND (power), N11 GND (power), N12 GND (power), N13 GND (power), P9 GND (power), P14 GND (power), T8 GNDQ (power), T15 GNDQ (power), V3 GND (power), V6 GNDQ (power), V18 GNDQ (power), V20 GND (power), W4 GND (power), W19 GND (power), Y5 GND (power), Y18 GND (power)
part L pins: F7 VCCPLA (power), F16 VCCPLB (power), G7 VCOMPLA (power), G16 VCOMPLB (power), L7 VCOMPLF (power), L18 VCOMPLC (power), M6 VCCPLF (power), M18 VCCPLC (power), R16 VCCPLD (power), T7 VCOMPLE (power), T16 VCOMPLD (power), U7 VCCPLE (power)
part M pins: A19 NC, AA3 NC, AA14 NC, AA15 NC, AA18 NC, AA19 NC, AA20 NC, AB10 NC, AB11 NC, AB18 NC, AB19 NC, B3 NC, B14 NC, B15 NC, B19 NC, B20 NC, C2 NC, C3 NC, C4 NC, C12 NC, C13 NC, C16 NC, C17 NC, C19 NC, C20 NC, C21 NC, D1 NC, D2 NC, D3 NC, D20 NC, D21 NC, D22 NC, E1 NC, E2 NC, E21 NC, E22 NC, F1 NC, F20 NC, F21 NC, F22 NC, G3 NC, G22 NC, H1 NC, H2 NC, H21 NC, H22 NC, J3 NC, J20 NC, K3 NC, L1 NC, M1 NC, M22 NC, N3 NC, N20 NC, P1 NC, P20 NC, R1 NC, T1 NC, T3 NC, T20 NC, U1 NC, U20 NC, V1 NC, V2 NC, V21 NC, W1 NC, W2 NC, W3 NC, W20 NC, W21 NC, W22 NC, Y2 NC, Y3 NC, Y13 NC, Y16 NC, Y17 NC, Y19 NC, Y20 NC, Y21 NC
part A text: BANK 0
part B text: BANK 1
part C text: BANK 2
part D text: BANK 3
part E text: BANK 4
part F text: BANK 5
part G text: BANK 6
part H text: BANK 7

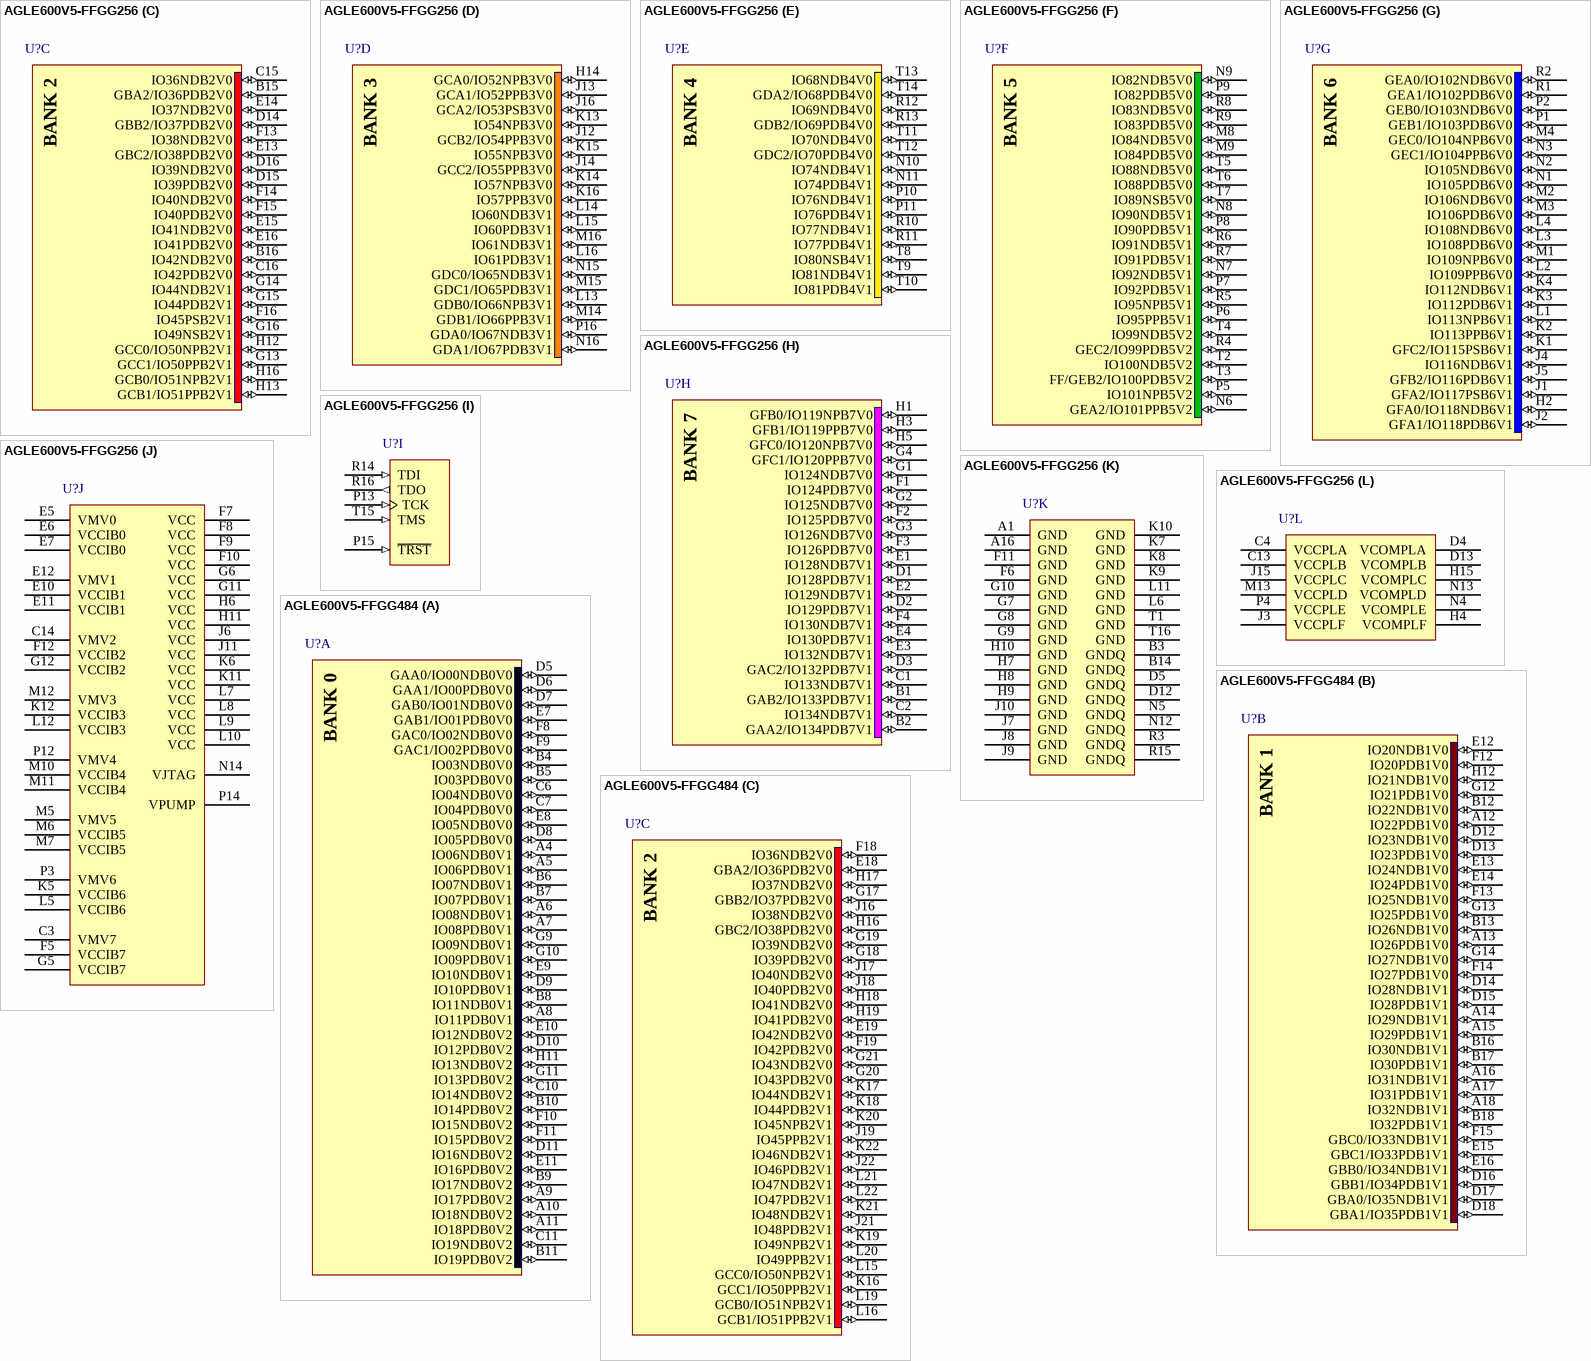
[diagram p14: symbols AGLE600V5-FFGG256 to AGLE600V5-FFGG484]

## AGLE600V5-FFGG256
designator U?
IGLOOe 1.5V Flash FPGA with Flash*Freeze, 165 User IOs, 600K System Gates, 108Kbits RAM, 1Kbit Flash ROM, 256-Pin FBGA, F Speed Grade, Commercial Grade; DatasheetVersion: v1.0, Jan-2008; PackageVersion: rev39, Aug-2010; PackageReference: FG256; PackageDescription: 256-Ball Fine Pitch Plastic Ball Grid Array 1.00 mm Pitch (FG256); Code_JEDEC: MO-192-DAF-1; ComponentLink1Description: Manufacturer URL; ComponentLink1URL: http://www.actel.com/; ComponentLink2Description: IGLOOe Datasheet; ComponentLink2URL: http://www.actel.com/documents/IGLOOe_DS.pdf; ComponentLink3Description: Package Mechanical Drawings; ComponentLink3URL: http://www.actel.com/documents/PckgMechDrwngs.pdf; ComponentLink4Description: IGLOOe Documents; ComponentLink4URL: http://www.actel.com/products/igloo/docs.aspx
footprint FG256 (BGA, 256-Leads, Body 17x17mm, Pitch 1mm)
part A pins: A2 GAA0/IO00NDB0V0 (io), A3 GAA1/IO00PDB0V0 (io), A4 GAB0/IO01NDB0V0 (io), A5 IO05PDB0V0 (io), A6 IO10PDB0V1 (io), A7 IO12PDB0V2 (io), A8 IO16NDB0V2 (io), B4 GAB1/IO01PDB0V0 (io), B5 IO05NDB0V0 (io), B6 IO10NDB0V1 (io), B7 IO12NDB0V2 (io), B8 IO16PDB0V2 (io), C5 GAC0/IO02NDB0V0 (io), C6 GAC1/IO02PDB0V0 (io), C7 IO15NDB0V2 (io), C8 IO15PDB0V2 (io), D6 IO09NDB0V1 (io), D7 IO09PDB0V1 (io), D8 IO13PDB0V2 (io), E8 IO13NDB0V2 (io)
part B pins: A9 IO23NDB1V0 (io), A10 IO23PDB1V0 (io), A11 IO28NDB1V1 (io), A12 IO28PDB1V1 (io), A13 GBB1/IO34PDB1V1 (io), A14 GBA0/IO35NDB1V1 (io), A15 GBA1/IO35PDB1V1 (io), B9 IO20NDB1V0 (io), B10 IO24NDB1V0 (io), B11 IO24PDB1V0 (io), B12 GBC1/IO33PDB1V1 (io), B13 GBB0/IO34NDB1V1 (io), C9 IO20PDB1V0 (io), C10 IO25NDB1V0 (io), C11 IO27PDB1V0 (io), C12 GBC0/IO33NDB1V1 (io), D9 IO21PDB1V0 (io), D10 IO25PDB1V0 (io), D11 IO27NDB1V0 (io), E9 IO21NDB1V0 (io)
part C pins: B15 GBA2/IO36PDB2V0 (io), B16 IO42NDB2V0 (io), C15 IO36NDB2V0 (io), C16 IO42PDB2V0 (io), D14 GBB2/IO37PDB2V0 (io), D15 IO39PDB2V0 (io), D16 IO39NDB2V0 (io), E13 GBC2/IO38PDB2V0 (io), E14 IO37NDB2V0 (io), E15 IO41NDB2V0 (io), E16 IO41PDB2V0 (io), F13 IO38NDB2V0 (io), F14 IO40NDB2V0 (io), F15 IO40PDB2V0 (io), F16 IO45PSB2V1 (io), G13 GCC1/IO50PPB2V1 (io), G14 IO44NDB2V1 (io), G15 IO44PDB2V1 (io), G16 IO49NSB2V1 (io), H12 GCC0/IO50NPB2V1 (io), H13 GCB1/IO51PPB2V1 (io), H16 GCB0/IO51NPB2V1 (io)
part D pins: H14 GCA0/IO52NPB3V0 (io), J12 GCB2/IO54PPB3V0 (io), J13 GCA1/IO52PPB3V0 (io), J14 GCC2/IO55PPB3V0 (io), J16 GCA2/IO53PSB3V0 (io), K13 IO54NPB3V0 (io), K14 IO57NPB3V0 (io), K15 IO55NPB3V0 (io), K16 IO57PPB3V0 (io), L13 GDB0/IO66NPB3V1 (io), L14 IO60NDB3V1 (io), L15 IO60PDB3V1 (io), L16 IO61PDB3V1 (io), M14 GDB1/IO66PPB3V1 (io), M15 GDC1/IO65PDB3V1 (io), M16 IO61NDB3V1 (io), N15 GDC0/IO65NDB3V1 (io), N16 GDA1/IO67PDB3V1 (io), P16 GDA0/IO67NDB3V1 (io)
part E pins: N10 IO74NDB4V1 (io), N11 IO74PDB4V1 (io), P10 IO76NDB4V1 (io), P11 IO76PDB4V1 (io), R10 IO77NDB4V1 (io), R11 IO77PDB4V1 (io), R12 IO69NDB4V0 (io), R13 GDB2/IO69PDB4V0 (io), T8 IO80NSB4V1 (io), T9 IO81NDB4V1 (io), T10 IO81PDB4V1 (io), T11 IO70NDB4V0 (io), T12 GDC2/IO70PDB4V0 (io), T13 IO68NDB4V0 (io), T14 GDA2/IO68PDB4V0 (io)
part F pins: M8 IO84NDB5V0 (io), M9 IO84PDB5V0 (io), N6 GEA2/IO101PPB5V2 (io), N7 IO92NDB5V1 (io), N8 IO90NDB5V1 (io), N9 IO82NDB5V0 (io), P5 IO101NPB5V2 (io), P6 IO95PPB5V1 (io), P7 IO92PDB5V1 (io), P8 IO90PDB5V1 (io), P9 IO82PDB5V0 (io), R4 GEC2/IO99PDB5V2 (io), R5 IO95NPB5V1 (io), R6 IO91NDB5V1 (io), R7 IO91PDB5V1 (io), R8 IO83NDB5V0 (io), R9 IO83PDB5V0 (io), T2 IO100NDB5V2 (io), T3 FF/GEB2/IO100PDB5V2 (io), T4 IO99NDB5V2 (io), T5 IO88NDB5V0 (io), T6 IO88PDB5V0 (io), T7 IO89NSB5V0 (io)
part G pins: H2 GFA0/IO118NDB6V1 (io), J1 GFA2/IO117PSB6V1 (io), J2 GFA1/IO118PDB6V1 (io), J4 IO116NDB6V1 (io), J5 GFB2/IO116PDB6V1 (io), K1 GFC2/IO115PSB6V1 (io), K2 IO113PPB6V1 (io), K3 IO112PDB6V1 (io), K4 IO112NDB6V1 (io), L1 IO113NPB6V1 (io), L2 IO109PPB6V0 (io), L3 IO108PDB6V0 (io), L4 IO108NDB6V0 (io), M1 IO109NPB6V0 (io), M2 IO106NDB6V0 (io), M3 IO106PDB6V0 (io), M4 GEC0/IO104NPB6V0 (io), N1 IO105PDB6V0 (io), N2 IO105NDB6V0 (io), N3 GEC1/IO104PPB6V0 (io), P1 GEB1/IO103PDB6V0 (io), P2 GEB0/IO103NDB6V0 (io), R1 GEA1/IO102PDB6V0 (io), R2 GEA0/IO102NDB6V0 (io)
part H pins: B1 GAB2/IO133PDB7V1 (io), B2 GAA2/IO134PDB7V1 (io), C1 IO133NDB7V1 (io), C2 IO134NDB7V1 (io), D1 IO128PDB7V1 (io), D2 IO129PDB7V1 (io), D3 GAC2/IO132PDB7V1 (io), E1 IO128NDB7V1 (io), E2 IO129NDB7V1 (io), E3 IO132NDB7V1 (io), E4 IO130PDB7V1 (io), F1 IO124PDB7V0 (io), F2 IO125PDB7V0 (io), F3 IO126PDB7V0 (io), F4 IO130NDB7V1 (io), G1 IO124NDB7V0 (io), G2 IO125NDB7V0 (io), G3 IO126NDB7V0 (io), G4 GFC1/IO120PPB7V0 (io), H1 GFB0/IO119NPB7V0 (io), H3 GFB1/IO119PPB7V0 (io), H5 GFC0/IO120NPB7V0 (io)
part I pins: P13 TCK (in), P15 ~{TRST} (in), R14 TDI (in), R16 TDO (out), T15 TMS (in)
part J pins: C3 VMV7 (power), C14 VMV2 (power), E5 VMV0 (power), E6 VCCIB0 (power), E7 VCCIB0 (power), E10 VCCIB1 (power), E11 VCCIB1 (power), E12 VMV1 (power), F5 VCCIB7 (power), F7 VCC (power), F8 VCC (power), F9 VCC (power), F10 VCC (power), F12 VCCIB2 (power), G5 VCCIB7 (power), G6 VCC (power), G11 VCC (power), G12 VCCIB2 (power), H6 VCC (power), H11 VCC (power), J6 VCC (power), J11 VCC (power), K5 VCCIB6 (power), K6 VCC (power), K11 VCC (power), K12 VCCIB3 (power), L5 VCCIB6 (power), L7 VCC (power), L8 VCC (power), L9 VCC (power), L10 VCC (power), L12 VCCIB3 (power), M5 VMV5 (power), M6 VCCIB5 (power), M7 VCCIB5 (power), M10 VCCIB4 (power), M11 VCCIB4 (power), M12 VMV3 (power), N14 VJTAG (power), P3 VMV6 (power), P12 VMV4 (power), P14 VPUMP (power)
part K pins: A1 GND (power), A16 GND (power), B3 GNDQ (power), B14 GNDQ (power), D5 GNDQ (power), D12 GNDQ (power), F6 GND (power), F11 GND (power), G7 GND (power), G8 GND (power), G9 GND (power), G10 GND (power), H7 GND (power), H8 GND (power), H9 GND (power), H10 GND (power), J7 GND (power), J8 GND (power), J9 GND (power), J10 GND (power), K7 GND (power), K8 GND (power), K9 GND (power), K10 GND (power), L6 GND (power), L11 GND (power), N5 GNDQ (power), N12 GNDQ (power), R3 GNDQ (power), R15 GNDQ (power), T1 GND (power), T16 GND (power)
part L pins: C4 VCCPLA (power), C13 VCCPLB (power), D4 VCOMPLA (power), D13 VCOMPLB (power), H4 VCOMPLF (power), H15 VCOMPLC (power), J3 VCCPLF (power), J15 VCCPLC (power), M13 VCCPLD (power), N4 VCOMPLE (power), N13 VCOMPLD (power), P4 VCCPLE (power)
part A text: BANK 0
part B text: BANK 1
part C text: BANK 2
part D text: BANK 3
part E text: BANK 4
part F text: BANK 5
part G text: BANK 6
part H text: BANK 7

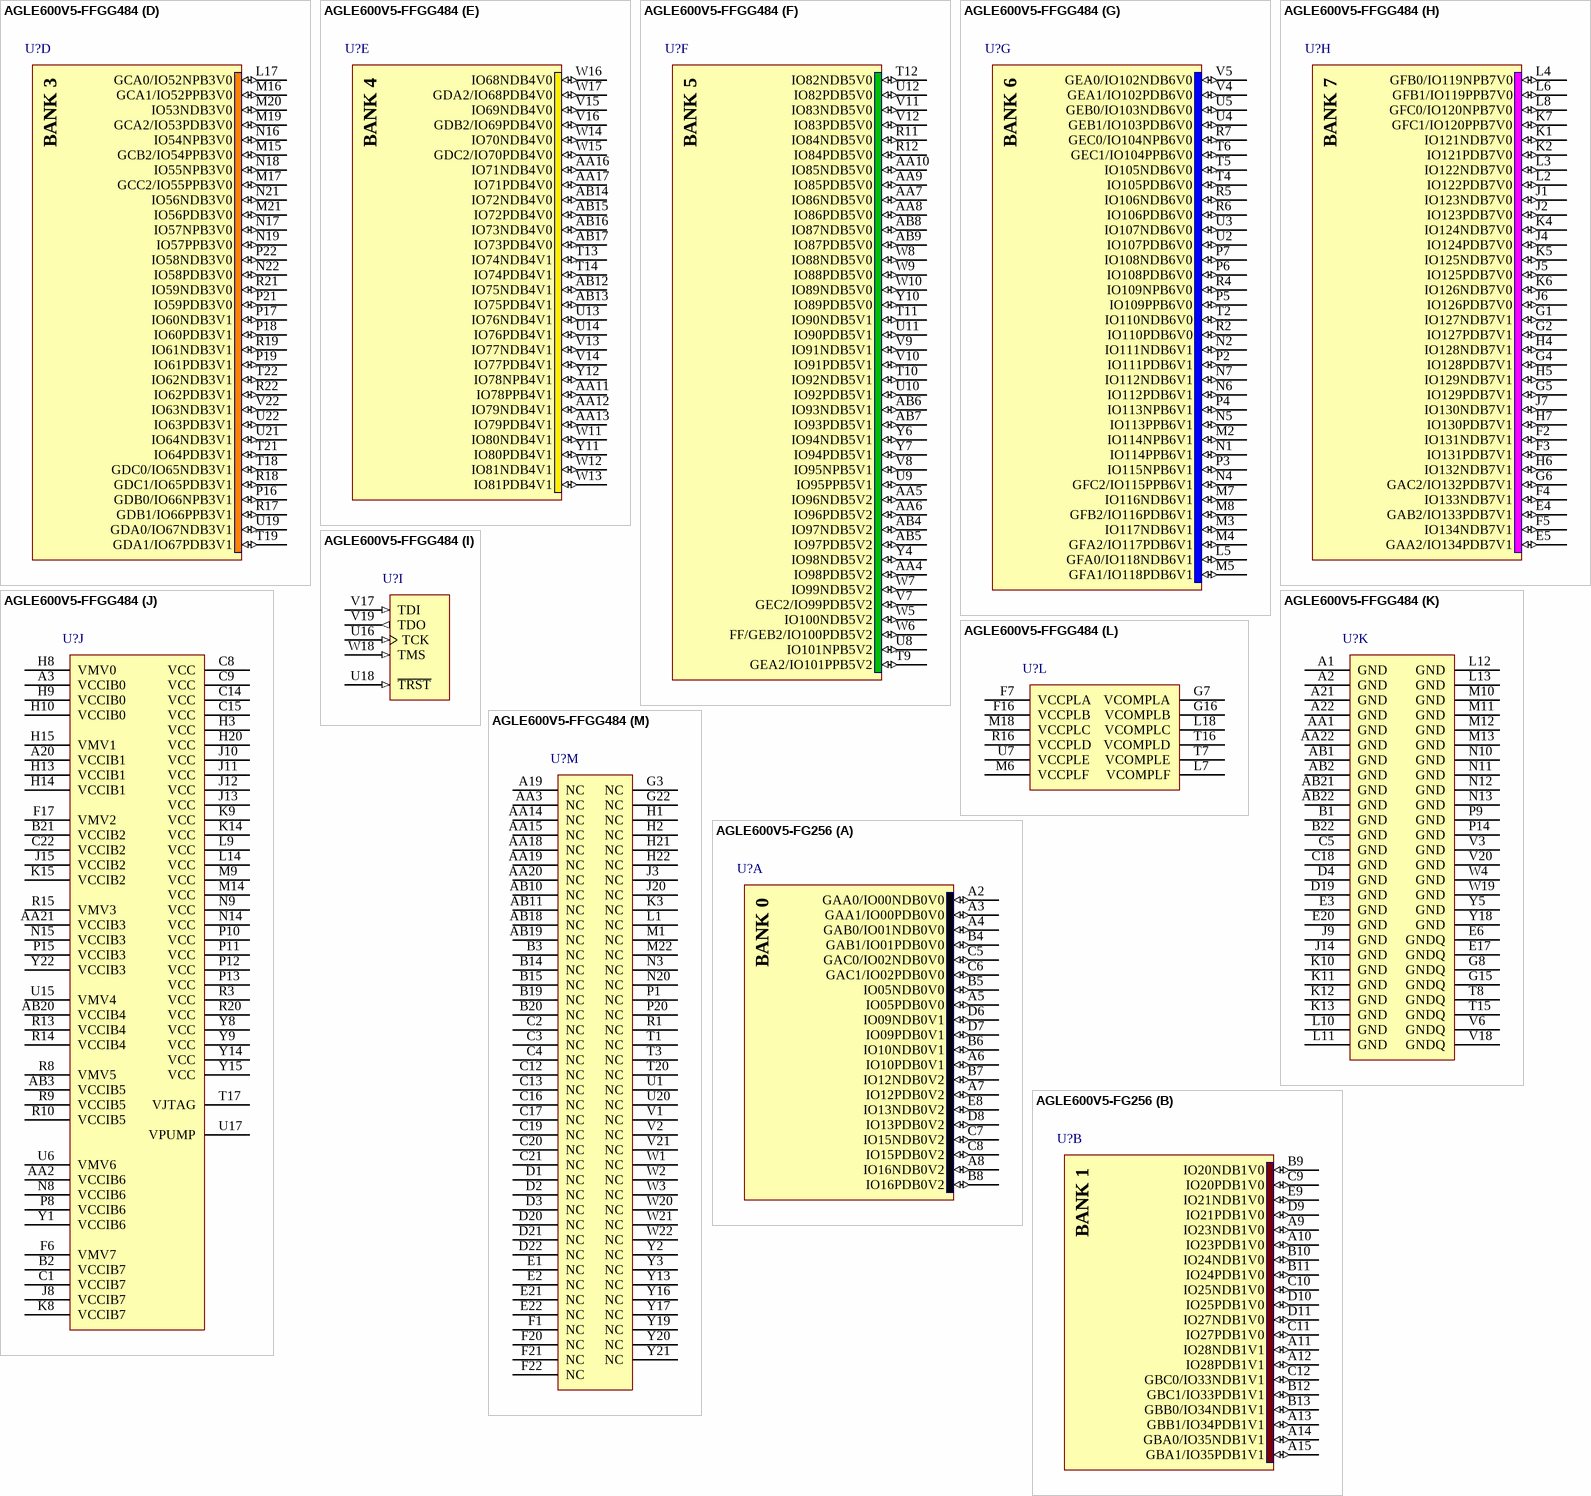
[diagram p15: symbols AGLE600V5-FFGG484 to AGLE600V5-FG256]

## AGLE600V5-FFGG484
designator U?
IGLOOe 1.5V Flash FPGA with Flash*Freeze, 270 User IOs, 600K System Gates, 108Kbits RAM, 1Kbit Flash ROM, 484-Pin FBGA, F Speed Grade, Commercial Grade; DatasheetVersion: v1.0, Jan-2008; PackageVersion: rev39, Aug-2010; PackageReference: FG484; PackageDescription: 484-Ball Fine Pitch Plastic Ball Grid Array (FG484) - Fully Populated; Code_JEDEC: MS-034-AAJ-1; Code_IPC: BGA100P22X22-484; ComponentLink1Description: Manufacturer URL; ComponentLink1URL: http://www.actel.com/; ComponentLink2Description: IGLOOe Datasheet; ComponentLink2URL: http://www.actel.com/documents/IGLOOe_DS.pdf; ComponentLink3Description: Package Mechanical Drawings; ComponentLink3URL: http://www.actel.com/documents/PckgMechDrwngs.pdf; ComponentLink4Description: IGLOOe Documents; ComponentLink4URL: http://www.actel.com/products/igloo/docs.aspx
footprint FG484 (BGA, 484-Leads, Body 23x23mm, Pitch 1mm)
part A pins: A4 IO06NDB0V1 (io), A5 IO06PDB0V1 (io), A6 IO08NDB0V1 (io), A7 IO08PDB0V1 (io), A8 IO11PDB0V1 (io), A9 IO17PDB0V2 (io), A10 IO18NDB0V2 (io), A11 IO18PDB0V2 (io), B4 IO03NDB0V0 (io), B5 IO03PDB0V0 (io), B6 IO07NDB0V1 (io), B7 IO07PDB0V1 (io), B8 IO11NDB0V1 (io), B9 IO17NDB0V2 (io), B10 IO14PDB0V2 (io), B11 IO19PDB0V2 (io), C6 IO04NDB0V0 (io), C7 IO04PDB0V0 (io), C10 IO14NDB0V2 (io), C11 IO19NDB0V2 (io), D5 GAA0/IO00NDB0V0 (io), D6 GAA1/IO00PDB0V0 (io), D7 GAB0/IO01NDB0V0 (io), D8 IO05PDB0V0 (io), D9 IO10PDB0V1 (io), D10 IO12PDB0V2 (io), D11 IO16NDB0V2 (io), E7 GAB1/IO01PDB0V0 (io), E8 IO05NDB0V0 (io), E9 IO10NDB0V1 (io), E10 IO12NDB0V2 (io), E11 IO16PDB0V2 (io), F8 GAC0/IO02NDB0V0 (io), F9 GAC1/IO02PDB0V0 (io), F10 IO15NDB0V2 (io), F11 IO15PDB0V2 (io), G9 IO09NDB0V1 (io), G10 IO09PDB0V1 (io), G11 IO13PDB0V2 (io), H11 IO13NDB0V2 (io)
part B pins: A12 IO22PDB1V0 (io), A13 IO26PDB1V0 (io), A14 IO29NDB1V1 (io), A15 IO29PDB1V1 (io), A16 IO31NDB1V1 (io), A17 IO31PDB1V1 (io), A18 IO32NDB1V1 (io), B12 IO22NDB1V0 (io), B13 IO26NDB1V0 (io), B16 IO30NDB1V1 (io), B17 IO30PDB1V1 (io), B18 IO32PDB1V1 (io), D12 IO23NDB1V0 (io), D13 IO23PDB1V0 (io), D14 IO28NDB1V1 (io), D15 IO28PDB1V1 (io), D16 GBB1/IO34PDB1V1 (io), D17 GBA0/IO35NDB1V1 (io), D18 GBA1/IO35PDB1V1 (io), E12 IO20NDB1V0 (io), E13 IO24NDB1V0 (io), E14 IO24PDB1V0 (io), E15 GBC1/IO33PDB1V1 (io), E16 GBB0/IO34NDB1V1 (io), F12 IO20PDB1V0 (io), F13 IO25NDB1V0 (io), F14 IO27PDB1V0 (io), F15 GBC0/IO33NDB1V1 (io), G12 IO21PDB1V0 (io), G13 IO25PDB1V0 (io), G14 IO27NDB1V0 (io), H12 IO21NDB1V0 (io)
part C pins: E18 GBA2/IO36PDB2V0 (io), E19 IO42NDB2V0 (io), F18 IO36NDB2V0 (io), F19 IO42PDB2V0 (io), G17 GBB2/IO37PDB2V0 (io), G18 IO39PDB2V0 (io), G19 IO39NDB2V0 (io), G20 IO43PDB2V0 (io), G21 IO43NDB2V0 (io), H16 GBC2/IO38PDB2V0 (io), H17 IO37NDB2V0 (io), H18 IO41NDB2V0 (io), H19 IO41PDB2V0 (io), J16 IO38NDB2V0 (io), J17 IO40NDB2V0 (io), J18 IO40PDB2V0 (io), J19 IO45PPB2V1 (io), J21 IO48PDB2V1 (io), J22 IO46PDB2V1 (io), K16 GCC1/IO50PPB2V1 (io), K17 IO44NDB2V1 (io), K18 IO44PDB2V1 (io), K19 IO49NPB2V1 (io), K20 IO45NPB2V1 (io), K21 IO48NDB2V1 (io), K22 IO46NDB2V1 (io), L15 GCC0/IO50NPB2V1 (io), L16 GCB1/IO51PPB2V1 (io), L19 GCB0/IO51NPB2V1 (io), L20 IO49PPB2V1 (io), L21 IO47NDB2V1 (io), L22 IO47PDB2V1 (io)
part D pins: L17 GCA0/IO52NPB3V0 (io), M15 GCB2/IO54PPB3V0 (io), M16 GCA1/IO52PPB3V0 (io), M17 GCC2/IO55PPB3V0 (io), M19 GCA2/IO53PDB3V0 (io), M20 IO53NDB3V0 (io), M21 IO56PDB3V0 (io), N16 IO54NPB3V0 (io), N17 IO57NPB3V0 (io), N18 IO55NPB3V0 (io), N19 IO57PPB3V0 (io), N21 IO56NDB3V0 (io), N22 IO58PDB3V0 (io), P16 GDB0/IO66NPB3V1 (io), P17 IO60NDB3V1 (io), P18 IO60PDB3V1 (io), P19 IO61PDB3V1 (io), P21 IO59PDB3V0 (io), P22 IO58NDB3V0 (io), R17 GDB1/IO66PPB3V1 (io), R18 GDC1/IO65PDB3V1 (io), R19 IO61NDB3V1 (io), R21 IO59NDB3V0 (io), R22 IO62PDB3V1 (io), T18 GDC0/IO65NDB3V1 (io), T19 GDA1/IO67PDB3V1 (io), T21 IO64PDB3V1 (io), T22 IO62NDB3V1 (io), U19 GDA0/IO67NDB3V1 (io), U21 IO64NDB3V1 (io), U22 IO63PDB3V1 (io), V22 IO63NDB3V1 (io)
part E pins: AA11 IO78PPB4V1 (io), AA12 IO79NDB4V1 (io), AA13 IO79PDB4V1 (io), AA16 IO71NDB4V0 (io), AA17 IO71PDB4V0 (io), AB12 IO75NDB4V1 (io), AB13 IO75PDB4V1 (io), AB14 IO72NDB4V0 (io), AB15 IO72PDB4V0 (io), AB16 IO73NDB4V0 (io), AB17 IO73PDB4V0 (io), T13 IO74NDB4V1 (io), T14 IO74PDB4V1 (io), U13 IO76NDB4V1 (io), U14 IO76PDB4V1 (io), V13 IO77NDB4V1 (io), V14 IO77PDB4V1 (io), V15 IO69NDB4V0 (io), V16 GDB2/IO69PDB4V0 (io), W11 IO80NDB4V1 (io), W12 IO81NDB4V1 (io), W13 IO81PDB4V1 (io), W14 IO70NDB4V0 (io), W15 GDC2/IO70PDB4V0 (io), W16 IO68NDB4V0 (io), W17 GDA2/IO68PDB4V0 (io), Y11 IO80PDB4V1 (io), Y12 IO78NPB4V1 (io)
part F pins: AA4 IO98PDB5V2 (io), AA5 IO96NDB5V2 (io), AA6 IO96PDB5V2 (io), AA7 IO86NDB5V0 (io), AA8 IO86PDB5V0 (io), AA9 IO85PDB5V0 (io), AA10 IO85NDB5V0 (io), AB4 IO97NDB5V2 (io), AB5 IO97PDB5V2 (io), AB6 IO93NDB5V1 (io), AB7 IO93PDB5V1 (io), AB8 IO87NDB5V0 (io), AB9 IO87PDB5V0 (io), R11 IO84NDB5V0 (io), R12 IO84PDB5V0 (io), T9 GEA2/IO101PPB5V2 (io), T10 IO92NDB5V1 (io), T11 IO90NDB5V1 (io), T12 IO82NDB5V0 (io), U8 IO101NPB5V2 (io), U9 IO95PPB5V1 (io), U10 IO92PDB5V1 (io), U11 IO90PDB5V1 (io), U12 IO82PDB5V0 (io), V7 GEC2/IO99PDB5V2 (io), V8 IO95NPB5V1 (io), V9 IO91NDB5V1 (io), V10 IO91PDB5V1 (io), V11 IO83NDB5V0 (io), V12 IO83PDB5V0 (io), W5 IO100NDB5V2 (io), W6 FF/GEB2/IO100PDB5V2 (io), W7 IO99NDB5V2 (io), W8 IO88NDB5V0 (io), W9 IO88PDB5V0 (io), W10 IO89NDB5V0 (io), Y4 IO98NDB5V2 (io), Y6 IO94NDB5V1 (io), Y7 IO94PDB5V1 (io), Y10 IO89PDB5V0 (io)
part G pins: L5 GFA0/IO118NDB6V1 (io), M2 IO114NPB6V1 (io), M3 IO117NDB6V1 (io), M4 GFA2/IO117PDB6V1 (io), M5 GFA1/IO118PDB6V1 (io), M7 IO116NDB6V1 (io), M8 GFB2/IO116PDB6V1 (io), N1 IO114PPB6V1 (io), N2 IO111NDB6V1 (io), N4 GFC2/IO115PPB6V1 (io), N5 IO113PPB6V1 (io), N6 IO112PDB6V1 (io), N7 IO112NDB6V1 (io), P2 IO111PDB6V1 (io), P3 IO115NPB6V1 (io), P4 IO113NPB6V1 (io), P5 IO109PPB6V0 (io), P6 IO108PDB6V0 (io), P7 IO108NDB6V0 (io), R2 IO110PDB6V0 (io), R4 IO109NPB6V0 (io), R5 IO106NDB6V0 (io), R6 IO106PDB6V0 (io), R7 GEC0/IO104NPB6V0 (io), T2 IO110NDB6V0 (io), T4 IO105PDB6V0 (io), T5 IO105NDB6V0 (io), T6 GEC1/IO104PPB6V0 (io), U2 IO107PDB6V0 (io), U3 IO107NDB6V0 (io), U4 GEB1/IO103PDB6V0 (io), U5 GEB0/IO103NDB6V0 (io), V4 GEA1/IO102PDB6V0 (io), V5 GEA0/IO102NDB6V0 (io)
part H pins: E4 GAB2/IO133PDB7V1 (io), E5 GAA2/IO134PDB7V1 (io), F2 IO131NDB7V1 (io), F3 IO131PDB7V1 (io), F4 IO133NDB7V1 (io), F5 IO134NDB7V1 (io), G1 IO127NDB7V1 (io), G2 IO127PDB7V1 (io), G4 IO128PDB7V1 (io), G5 IO129PDB7V1 (io), G6 GAC2/IO132PDB7V1 (io), H4 IO128NDB7V1 (io), H5 IO129NDB7V1 (io), H6 IO132NDB7V1 (io), H7 IO130PDB7V1 (io), J1 IO123NDB7V0 (io), J2 IO123PDB7V0 (io), J4 IO124PDB7V0 (io), J5 IO125PDB7V0 (io), J6 IO126PDB7V0 (io), J7 IO130NDB7V1 (io), K1 IO121NDB7V0 (io), K2 IO121PDB7V0 (io), K4 IO124NDB7V0 (io), K5 IO125NDB7V0 (io), K6 IO126NDB7V0 (io), K7 GFC1/IO120PPB7V0 (io), L2 IO122PDB7V0 (io), L3 IO122NDB7V0 (io), L4 GFB0/IO119NPB7V0 (io), L6 GFB1/IO119PPB7V0 (io), L8 GFC0/IO120NPB7V0 (io)
part I pins: U16 TCK (in), U18 ~{TRST} (in), V17 TDI (in), V19 TDO (out), W18 TMS (in)
part J pins: A3 VCCIB0 (power), A20 VCCIB1 (power), AA2 VCCIB6 (power), AA21 VCCIB3 (power), AB3 VCCIB5 (power), AB20 VCCIB4 (power), B2 VCCIB7 (power), B21 VCCIB2 (power), C1 VCCIB7 (power), C8 VCC (power), C9 VCC (power), C14 VCC (power), C15 VCC (power), C22 VCCIB2 (power), F6 VMV7 (power), F17 VMV2 (power), H3 VCC (power), H8 VMV0 (power), H9 VCCIB0 (power), H10 VCCIB0 (power), H13 VCCIB1 (power), H14 VCCIB1 (power), H15 VMV1 (power), H20 VCC (power), J8 VCCIB7 (power), J10 VCC (power), J11 VCC (power), J12 VCC (power), J13 VCC (power), J15 VCCIB2 (power), K8 VCCIB7 (power), K9 VCC (power), K14 VCC (power), K15 VCCIB2 (power), L9 VCC (power), L14 VCC (power), M9 VCC (power), M14 VCC (power), N8 VCCIB6 (power), N9 VCC (power), N14 VCC (power), N15 VCCIB3 (power), P8 VCCIB6 (power), P10 VCC (power), P11 VCC (power), P12 VCC (power), P13 VCC (power), P15 VCCIB3 (power), R3 VCC (power), R8 VMV5 (power), R9 VCCIB5 (power), R10 VCCIB5 (power), R13 VCCIB4 (power), R14 VCCIB4 (power), R15 VMV3 (power), R20 VCC (power), T17 VJTAG (power), U6 VMV6 (power), U15 VMV4 (power), U17 VPUMP (power), Y1 VCCIB6 (power), Y8 VCC (power), Y9 VCC (power), Y14 VCC (power), Y15 VCC (power), Y22 VCCIB3 (power)
part K pins: A1 GND (power), A2 GND (power), A21 GND (power), A22 GND (power), AA1 GND (power), AA22 GND (power), AB1 GND (power), AB2 GND (power), AB21 GND (power), AB22 GND (power), B1 GND (power), B22 GND (power), C5 GND (power), C18 GND (power), D4 GND (power), D19 GND (power), E3 GND (power), E6 GNDQ (power), E17 GNDQ (power), E20 GND (power), G8 GNDQ (power), G15 GNDQ (power), J9 GND (power), J14 GND (power), K10 GND (power), K11 GND (power), K12 GND (power), K13 GND (power), L10 GND (power), L11 GND (power), L12 GND (power), L13 GND (power), M10 GND (power), M11 GND (power), M12 GND (power), M13 GND (power), N10 GND (power), N11 GND (power), N12 GND (power), N13 GND (power), P9 GND (power), P14 GND (power), T8 GNDQ (power), T15 GNDQ (power), V3 GND (power), V6 GNDQ (power), V18 GNDQ (power), V20 GND (power), W4 GND (power), W19 GND (power), Y5 GND (power), Y18 GND (power)
part L pins: F7 VCCPLA (power), F16 VCCPLB (power), G7 VCOMPLA (power), G16 VCOMPLB (power), L7 VCOMPLF (power), L18 VCOMPLC (power), M6 VCCPLF (power), M18 VCCPLC (power), R16 VCCPLD (power), T7 VCOMPLE (power), T16 VCOMPLD (power), U7 VCCPLE (power)
part M pins: A19 NC, AA3 NC, AA14 NC, AA15 NC, AA18 NC, AA19 NC, AA20 NC, AB10 NC, AB11 NC, AB18 NC, AB19 NC, B3 NC, B14 NC, B15 NC, B19 NC, B20 NC, C2 NC, C3 NC, C4 NC, C12 NC, C13 NC, C16 NC, C17 NC, C19 NC, C20 NC, C21 NC, D1 NC, D2 NC, D3 NC, D20 NC, D21 NC, D22 NC, E1 NC, E2 NC, E21 NC, E22 NC, F1 NC, F20 NC, F21 NC, F22 NC, G3 NC, G22 NC, H1 NC, H2 NC, H21 NC, H22 NC, J3 NC, J20 NC, K3 NC, L1 NC, M1 NC, M22 NC, N3 NC, N20 NC, P1 NC, P20 NC, R1 NC, T1 NC, T3 NC, T20 NC, U1 NC, U20 NC, V1 NC, V2 NC, V21 NC, W1 NC, W2 NC, W3 NC, W20 NC, W21 NC, W22 NC, Y2 NC, Y3 NC, Y13 NC, Y16 NC, Y17 NC, Y19 NC, Y20 NC, Y21 NC
part A text: BANK 0
part B text: BANK 1
part C text: BANK 2
part D text: BANK 3
part E text: BANK 4
part F text: BANK 5
part G text: BANK 6
part H text: BANK 7

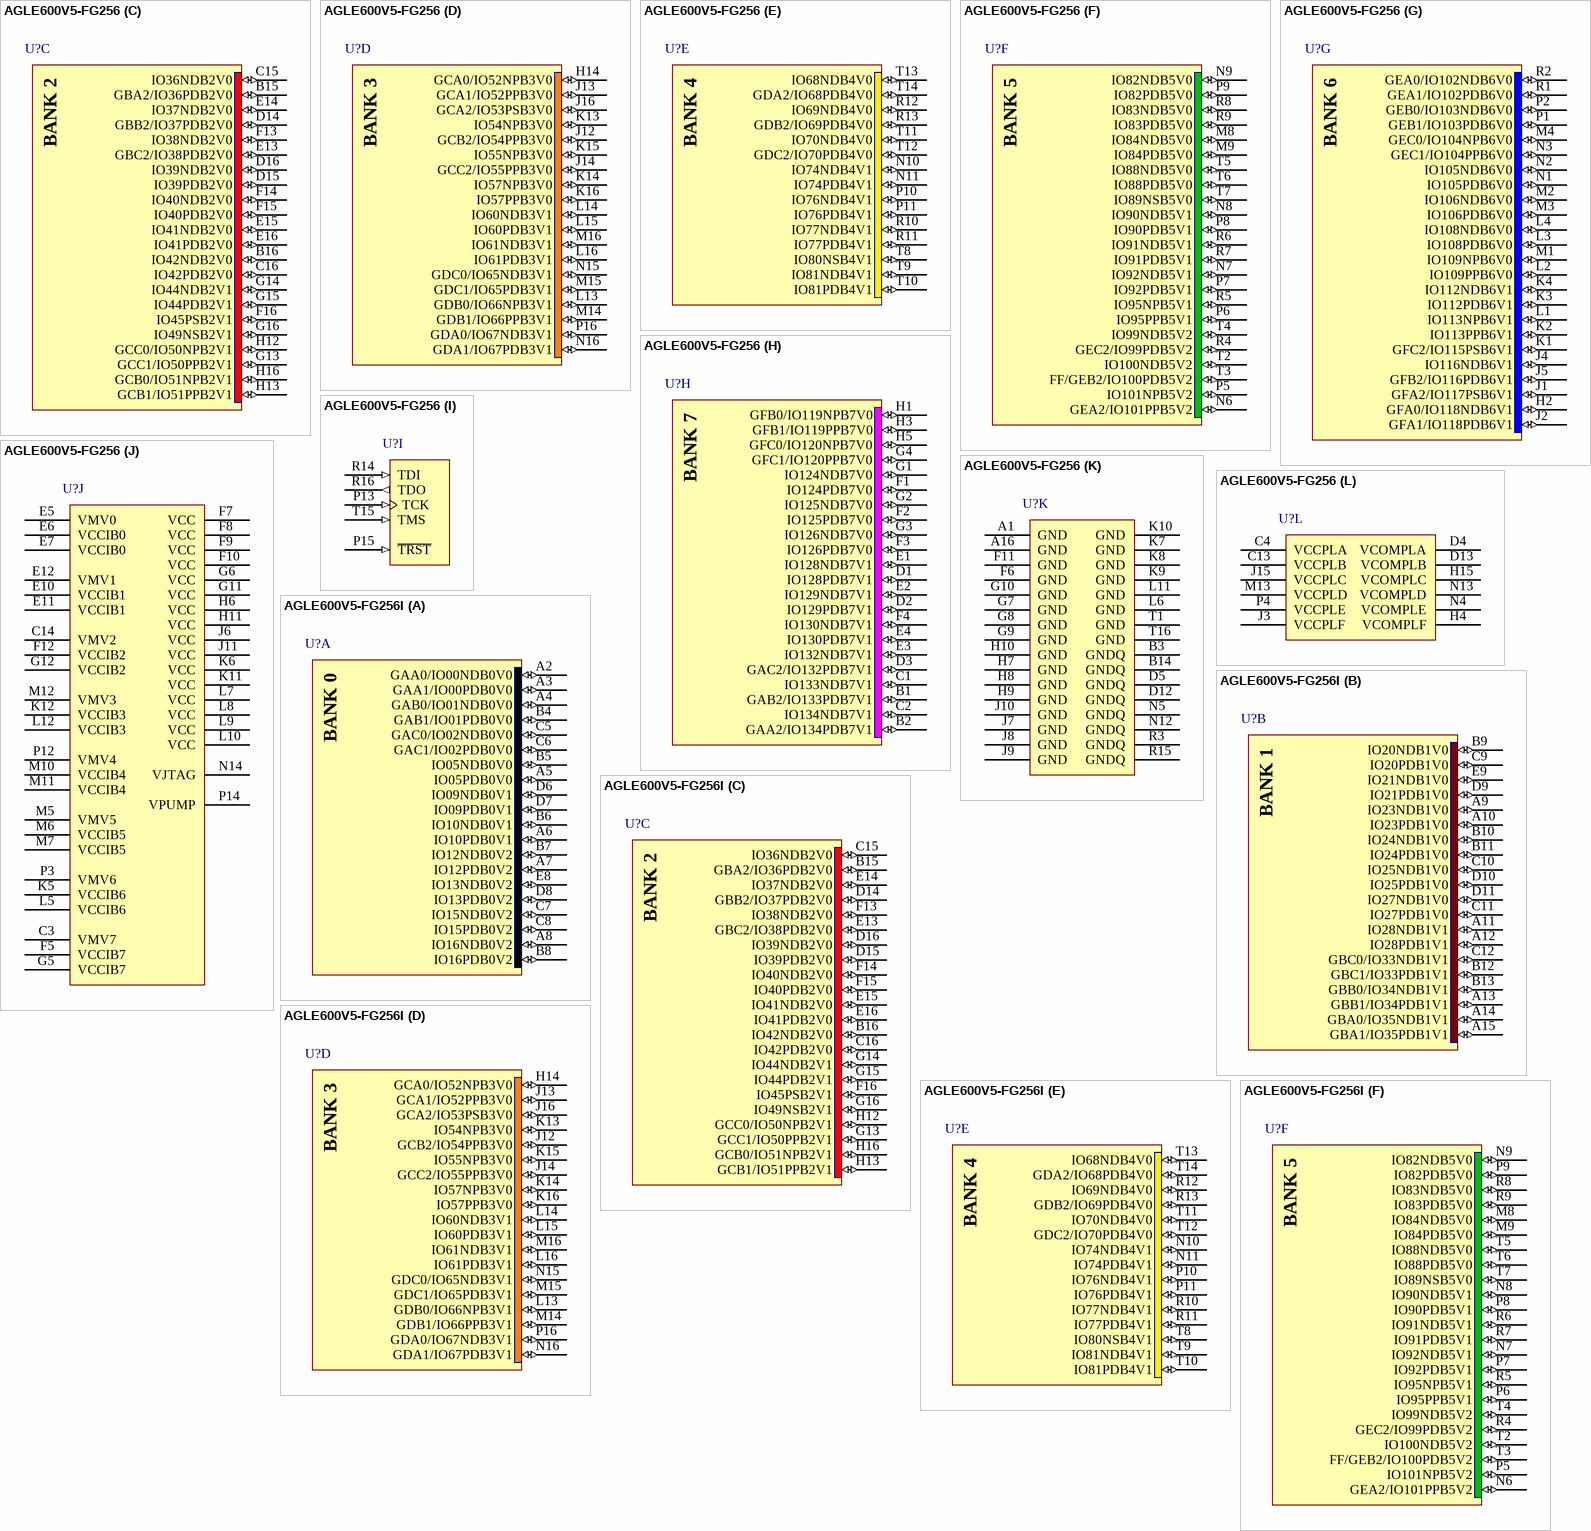
[diagram p16: symbols AGLE600V5-FG256 to AGLE600V5-FG256I]

## AGLE600V5-FG256
designator U?
IGLOOe 1.5V Flash FPGA with Flash*Freeze, 165 User IOs, 600K System Gates, 108Kbits RAM, 1Kbit Flash ROM, 256-Pin FBGA, Commercial Grade; DatasheetVersion: v2.0, Nov-2009; PackageVersion: rev39, Aug-2010; PackageReference: FG256; PackageDescription: 256-Ball Fine Pitch Plastic Ball Grid Array 1.00 mm Pitch (FG256); Code_JEDEC: MO-192-DAF-1; ComponentLink1Description: Manufacturer URL; ComponentLink1URL: http://www.actel.com/; ComponentLink2Description: IGLOOe Datasheet; ComponentLink2URL: http://www.actel.com/documents/IGLOOe_DS.pdf; ComponentLink3Description: Package Mechanical Drawings; ComponentLink3URL: http://www.actel.com/documents/PckgMechDrwngs.pdf; ComponentLink4Description: IGLOOe Documents; ComponentLink4URL: http://www.actel.com/products/igloo/docs.aspx
footprint FG256 (BGA, 256-Leads, Body 17x17mm, Pitch 1mm)
part A pins: A2 GAA0/IO00NDB0V0 (io), A3 GAA1/IO00PDB0V0 (io), A4 GAB0/IO01NDB0V0 (io), A5 IO05PDB0V0 (io), A6 IO10PDB0V1 (io), A7 IO12PDB0V2 (io), A8 IO16NDB0V2 (io), B4 GAB1/IO01PDB0V0 (io), B5 IO05NDB0V0 (io), B6 IO10NDB0V1 (io), B7 IO12NDB0V2 (io), B8 IO16PDB0V2 (io), C5 GAC0/IO02NDB0V0 (io), C6 GAC1/IO02PDB0V0 (io), C7 IO15NDB0V2 (io), C8 IO15PDB0V2 (io), D6 IO09NDB0V1 (io), D7 IO09PDB0V1 (io), D8 IO13PDB0V2 (io), E8 IO13NDB0V2 (io)
part B pins: A9 IO23NDB1V0 (io), A10 IO23PDB1V0 (io), A11 IO28NDB1V1 (io), A12 IO28PDB1V1 (io), A13 GBB1/IO34PDB1V1 (io), A14 GBA0/IO35NDB1V1 (io), A15 GBA1/IO35PDB1V1 (io), B9 IO20NDB1V0 (io), B10 IO24NDB1V0 (io), B11 IO24PDB1V0 (io), B12 GBC1/IO33PDB1V1 (io), B13 GBB0/IO34NDB1V1 (io), C9 IO20PDB1V0 (io), C10 IO25NDB1V0 (io), C11 IO27PDB1V0 (io), C12 GBC0/IO33NDB1V1 (io), D9 IO21PDB1V0 (io), D10 IO25PDB1V0 (io), D11 IO27NDB1V0 (io), E9 IO21NDB1V0 (io)
part C pins: B15 GBA2/IO36PDB2V0 (io), B16 IO42NDB2V0 (io), C15 IO36NDB2V0 (io), C16 IO42PDB2V0 (io), D14 GBB2/IO37PDB2V0 (io), D15 IO39PDB2V0 (io), D16 IO39NDB2V0 (io), E13 GBC2/IO38PDB2V0 (io), E14 IO37NDB2V0 (io), E15 IO41NDB2V0 (io), E16 IO41PDB2V0 (io), F13 IO38NDB2V0 (io), F14 IO40NDB2V0 (io), F15 IO40PDB2V0 (io), F16 IO45PSB2V1 (io), G13 GCC1/IO50PPB2V1 (io), G14 IO44NDB2V1 (io), G15 IO44PDB2V1 (io), G16 IO49NSB2V1 (io), H12 GCC0/IO50NPB2V1 (io), H13 GCB1/IO51PPB2V1 (io), H16 GCB0/IO51NPB2V1 (io)
part D pins: H14 GCA0/IO52NPB3V0 (io), J12 GCB2/IO54PPB3V0 (io), J13 GCA1/IO52PPB3V0 (io), J14 GCC2/IO55PPB3V0 (io), J16 GCA2/IO53PSB3V0 (io), K13 IO54NPB3V0 (io), K14 IO57NPB3V0 (io), K15 IO55NPB3V0 (io), K16 IO57PPB3V0 (io), L13 GDB0/IO66NPB3V1 (io), L14 IO60NDB3V1 (io), L15 IO60PDB3V1 (io), L16 IO61PDB3V1 (io), M14 GDB1/IO66PPB3V1 (io), M15 GDC1/IO65PDB3V1 (io), M16 IO61NDB3V1 (io), N15 GDC0/IO65NDB3V1 (io), N16 GDA1/IO67PDB3V1 (io), P16 GDA0/IO67NDB3V1 (io)
part E pins: N10 IO74NDB4V1 (io), N11 IO74PDB4V1 (io), P10 IO76NDB4V1 (io), P11 IO76PDB4V1 (io), R10 IO77NDB4V1 (io), R11 IO77PDB4V1 (io), R12 IO69NDB4V0 (io), R13 GDB2/IO69PDB4V0 (io), T8 IO80NSB4V1 (io), T9 IO81NDB4V1 (io), T10 IO81PDB4V1 (io), T11 IO70NDB4V0 (io), T12 GDC2/IO70PDB4V0 (io), T13 IO68NDB4V0 (io), T14 GDA2/IO68PDB4V0 (io)
part F pins: M8 IO84NDB5V0 (io), M9 IO84PDB5V0 (io), N6 GEA2/IO101PPB5V2 (io), N7 IO92NDB5V1 (io), N8 IO90NDB5V1 (io), N9 IO82NDB5V0 (io), P5 IO101NPB5V2 (io), P6 IO95PPB5V1 (io), P7 IO92PDB5V1 (io), P8 IO90PDB5V1 (io), P9 IO82PDB5V0 (io), R4 GEC2/IO99PDB5V2 (io), R5 IO95NPB5V1 (io), R6 IO91NDB5V1 (io), R7 IO91PDB5V1 (io), R8 IO83NDB5V0 (io), R9 IO83PDB5V0 (io), T2 IO100NDB5V2 (io), T3 FF/GEB2/IO100PDB5V2 (io), T4 IO99NDB5V2 (io), T5 IO88NDB5V0 (io), T6 IO88PDB5V0 (io), T7 IO89NSB5V0 (io)
part G pins: H2 GFA0/IO118NDB6V1 (io), J1 GFA2/IO117PSB6V1 (io), J2 GFA1/IO118PDB6V1 (io), J4 IO116NDB6V1 (io), J5 GFB2/IO116PDB6V1 (io), K1 GFC2/IO115PSB6V1 (io), K2 IO113PPB6V1 (io), K3 IO112PDB6V1 (io), K4 IO112NDB6V1 (io), L1 IO113NPB6V1 (io), L2 IO109PPB6V0 (io), L3 IO108PDB6V0 (io), L4 IO108NDB6V0 (io), M1 IO109NPB6V0 (io), M2 IO106NDB6V0 (io), M3 IO106PDB6V0 (io), M4 GEC0/IO104NPB6V0 (io), N1 IO105PDB6V0 (io), N2 IO105NDB6V0 (io), N3 GEC1/IO104PPB6V0 (io), P1 GEB1/IO103PDB6V0 (io), P2 GEB0/IO103NDB6V0 (io), R1 GEA1/IO102PDB6V0 (io), R2 GEA0/IO102NDB6V0 (io)
part H pins: B1 GAB2/IO133PDB7V1 (io), B2 GAA2/IO134PDB7V1 (io), C1 IO133NDB7V1 (io), C2 IO134NDB7V1 (io), D1 IO128PDB7V1 (io), D2 IO129PDB7V1 (io), D3 GAC2/IO132PDB7V1 (io), E1 IO128NDB7V1 (io), E2 IO129NDB7V1 (io), E3 IO132NDB7V1 (io), E4 IO130PDB7V1 (io), F1 IO124PDB7V0 (io), F2 IO125PDB7V0 (io), F3 IO126PDB7V0 (io), F4 IO130NDB7V1 (io), G1 IO124NDB7V0 (io), G2 IO125NDB7V0 (io), G3 IO126NDB7V0 (io), G4 GFC1/IO120PPB7V0 (io), H1 GFB0/IO119NPB7V0 (io), H3 GFB1/IO119PPB7V0 (io), H5 GFC0/IO120NPB7V0 (io)
part I pins: P13 TCK (in), P15 ~{TRST} (in), R14 TDI (in), R16 TDO (out), T15 TMS (in)
part J pins: C3 VMV7 (power), C14 VMV2 (power), E5 VMV0 (power), E6 VCCIB0 (power), E7 VCCIB0 (power), E10 VCCIB1 (power), E11 VCCIB1 (power), E12 VMV1 (power), F5 VCCIB7 (power), F7 VCC (power), F8 VCC (power), F9 VCC (power), F10 VCC (power), F12 VCCIB2 (power), G5 VCCIB7 (power), G6 VCC (power), G11 VCC (power), G12 VCCIB2 (power), H6 VCC (power), H11 VCC (power), J6 VCC (power), J11 VCC (power), K5 VCCIB6 (power), K6 VCC (power), K11 VCC (power), K12 VCCIB3 (power), L5 VCCIB6 (power), L7 VCC (power), L8 VCC (power), L9 VCC (power), L10 VCC (power), L12 VCCIB3 (power), M5 VMV5 (power), M6 VCCIB5 (power), M7 VCCIB5 (power), M10 VCCIB4 (power), M11 VCCIB4 (power), M12 VMV3 (power), N14 VJTAG (power), P3 VMV6 (power), P12 VMV4 (power), P14 VPUMP (power)
part K pins: A1 GND (power), A16 GND (power), B3 GNDQ (power), B14 GNDQ (power), D5 GNDQ (power), D12 GNDQ (power), F6 GND (power), F11 GND (power), G7 GND (power), G8 GND (power), G9 GND (power), G10 GND (power), H7 GND (power), H8 GND (power), H9 GND (power), H10 GND (power), J7 GND (power), J8 GND (power), J9 GND (power), J10 GND (power), K7 GND (power), K8 GND (power), K9 GND (power), K10 GND (power), L6 GND (power), L11 GND (power), N5 GNDQ (power), N12 GNDQ (power), R3 GNDQ (power), R15 GNDQ (power), T1 GND (power), T16 GND (power)
part L pins: C4 VCCPLA (power), C13 VCCPLB (power), D4 VCOMPLA (power), D13 VCOMPLB (power), H4 VCOMPLF (power), H15 VCOMPLC (power), J3 VCCPLF (power), J15 VCCPLC (power), M13 VCCPLD (power), N4 VCOMPLE (power), N13 VCOMPLD (power), P4 VCCPLE (power)
part A text: BANK 0
part B text: BANK 1
part C text: BANK 2
part D text: BANK 3
part E text: BANK 4
part F text: BANK 5
part G text: BANK 6
part H text: BANK 7

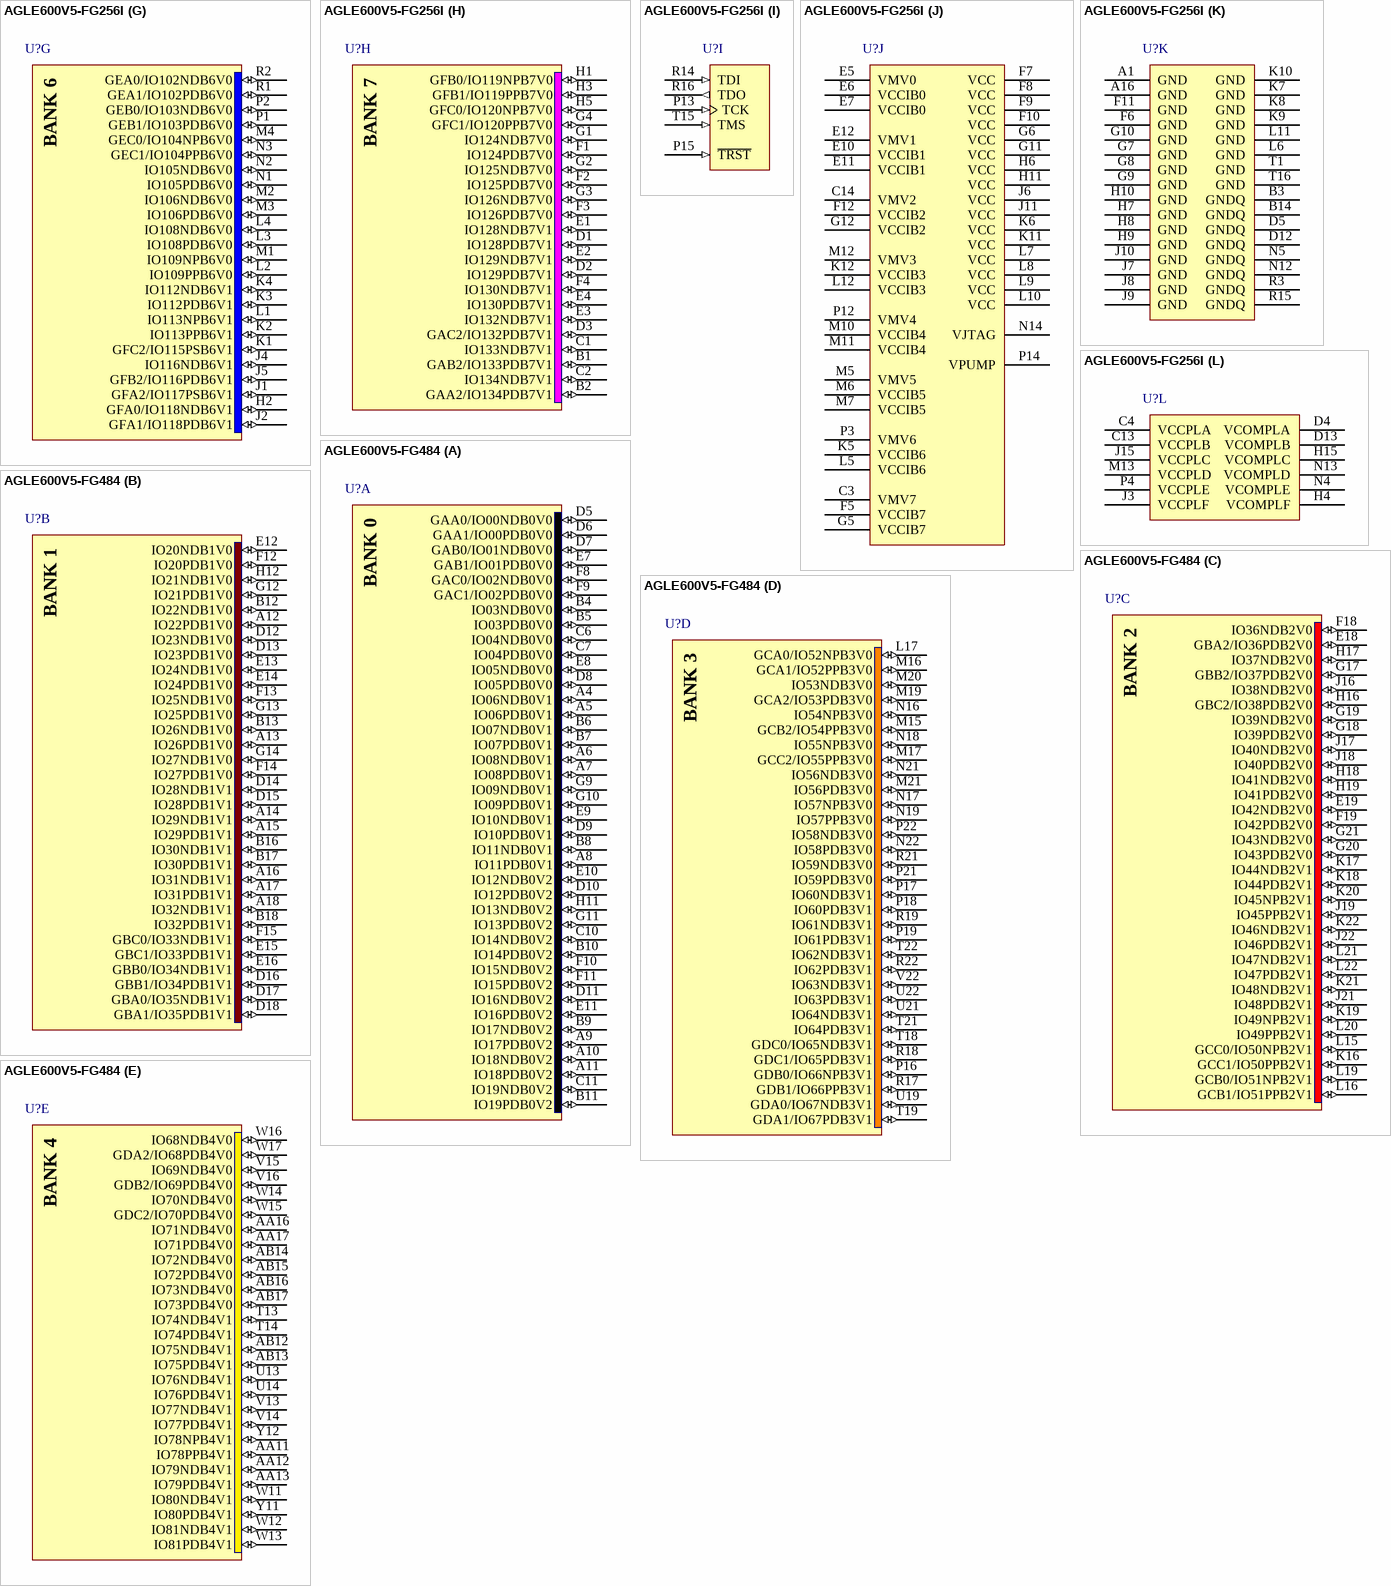
[diagram p17: symbols AGLE600V5-FG256I to AGLE600V5-FG484]